# Altium schematic symbol library 2.5 - STM32 F2系列单片机.SchLib: 49 symbols (part 2 of 3)
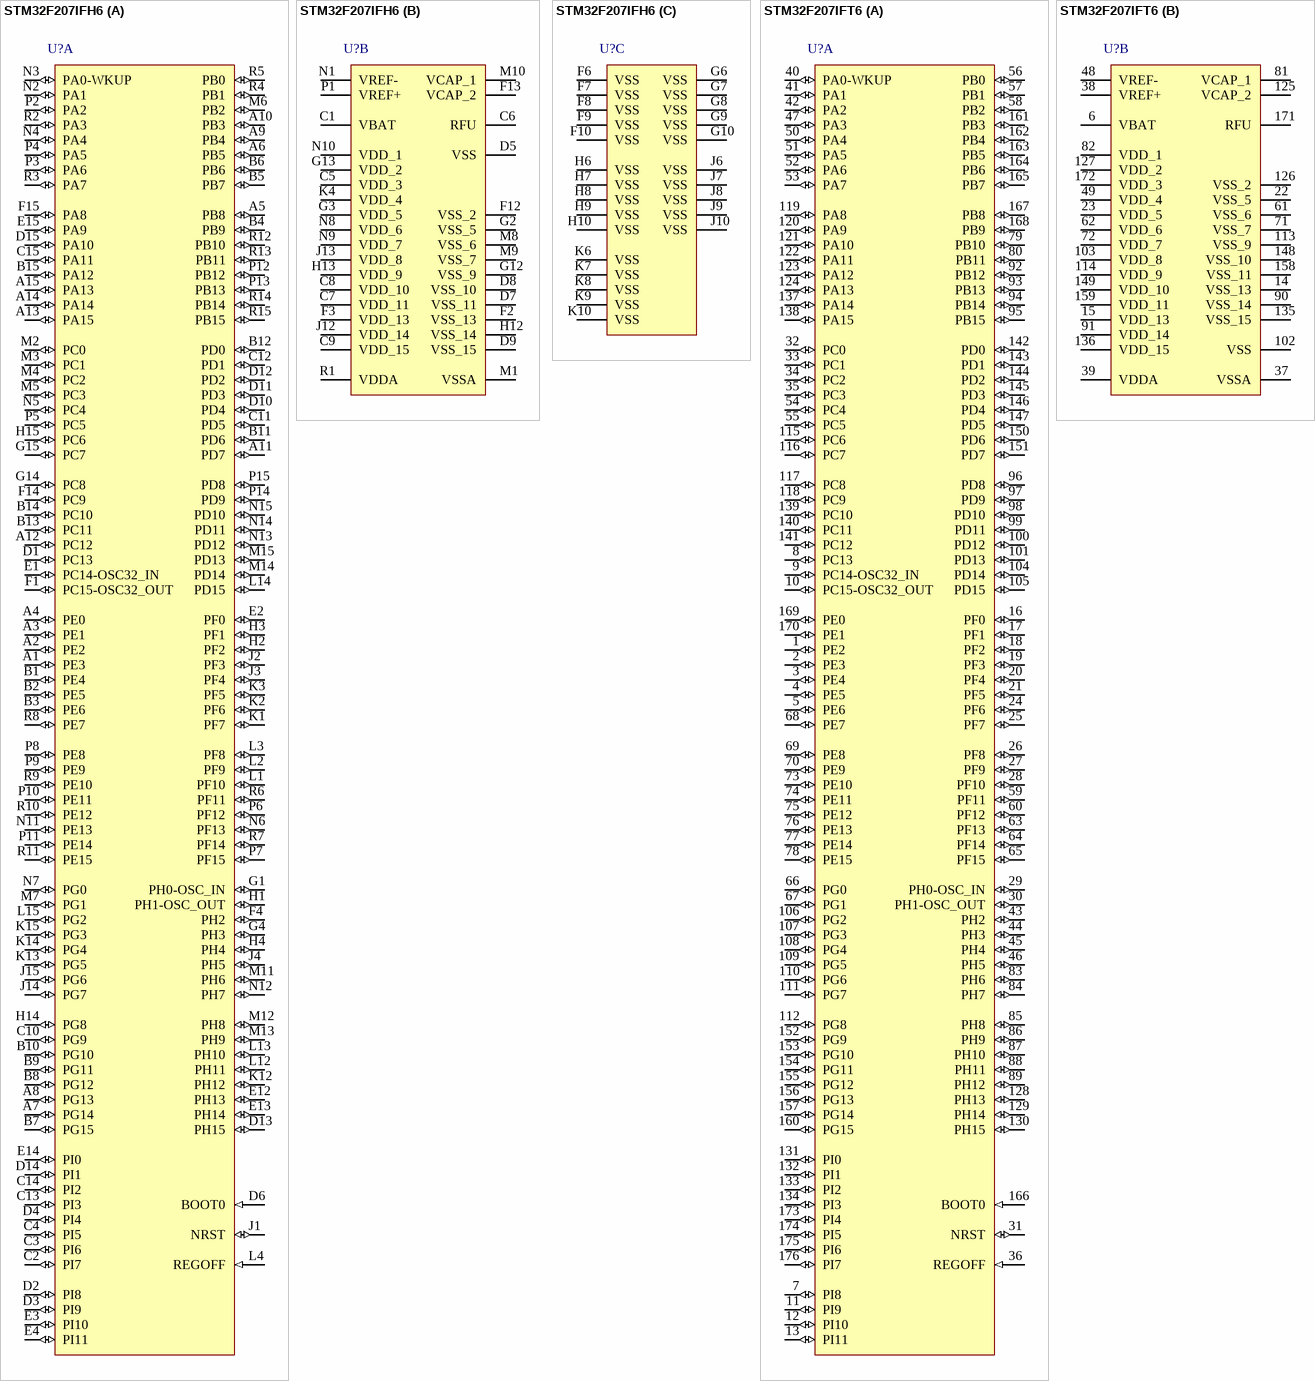
[diagram p15: symbols STM32F207IFH6 to STM32F207IFT6]

## STM32F207IFT6
designator U?
STM32 ARM-based 32-bit MCU Connectivity Line & Ethernet with 768 kB Flash, 128 kB Internal RAM, -40 to +85癈 Temperature, 176-Pin LQFP, Tray; 0.2_封装规格: LQFP176; 0.1_封装说明: 176-Pin Low Profile Quad Flat Pack 0.5 mm Pitch; 1.库作者: 冰凌猫; 2.库版本: v2.0 (2021.03.30); 3.交流分享: Q群514746572,开源更新,欢迎一起交流学习PCB设计; 4.作者声明: 旨为整合最全库集,欢迎转载,禁止商用！-冰凌猫; 5.备注说明: 该库已二次整合过网上各热销库,基本最全,无需重复搜购安装
footprint LQFP176_N (Thin QFP, 176-Leads, Body 24x24mm, Pitch 0.5mm, IPC Medium Density)
footprint LQFP176_L (Thin QFP, 176-Leads, Body 24x24mm, Pitch 0.5mm, IPC High Density)
footprint LQFP176_M (Thin QFP, 176-Leads, Body 24x24mm, Pitch 0.5mm, IPC Low Density)
part A pins: 1 PE2 (io), 2 PE3 (io), 3 PE4 (io), 4 PE5 (io), 5 PE6 (io), 7 PI8 (io), 8 PC13 (io), 9 PC14-OSC32_IN (io), 10 PC15-OSC32_OUT (io), 11 PI9 (io), 12 PI10 (io), 13 PI11 (io), 16 PF0 (io), 17 PF1 (io), 18 PF2 (io), 19 PF3 (io), 20 PF4 (io), 21 PF5 (io), 24 PF6 (io), 25 PF7 (io), 26 PF8 (io), 27 PF9 (io), 28 PF10 (io), 29 PH0-OSC_IN (io), 30 PH1-OSC_OUT (io), 31 NRST (io), 32 PC0 (io), 33 PC1 (io), 34 PC2 (io), 35 PC3 (io), 36 REGOFF (in), 40 PA0-WKUP (io), 41 PA1 (io), 42 PA2 (io), 43 PH2 (io), 44 PH3 (io), 45 PH4 (io), 46 PH5 (io), 47 PA3 (io), 50 PA4 (io), 51 PA5 (io), 52 PA6 (io), 53 PA7 (io), 54 PC4 (io), 55 PC5 (io), 56 PB0 (io), 57 PB1 (io), 58 PB2 (io), 59 PF11 (io), 60 PF12 (io), 63 PF13 (io), 64 PF14 (io), 65 PF15 (io), 66 PG0 (io), 67 PG1 (io), 68 PE7 (io), 69 PE8 (io), 70 PE9 (io), 73 PE10 (io), 74 PE11 (io), 75 PE12 (io), 76 PE13 (io), 77 PE14 (io), 78 PE15 (io), 79 PB10 (io), 80 PB11 (io), 83 PH6 (io), 84 PH7 (io), 85 PH8 (io), 86 PH9 (io), 87 PH10 (io), 88 PH11 (io), 89 PH12 (io), 92 PB12 (io), 93 PB13 (io), 94 PB14 (io), 95 PB15 (io), 96 PD8 (io), 97 PD9 (io), 98 PD10 (io), 99 PD11 (io), 100 PD12 (io), 101 PD13 (io), 104 PD14 (io), 105 PD15 (io), 106 PG2 (io), 107 PG3 (io), 108 PG4 (io), 109 PG5 (io), 110 PG6 (io), 111 PG7 (io), 112 PG8 (io), 115 PC6 (io), 116 PC7 (io), 117 PC8 (io), 118 PC9 (io), 119 PA8 (io), 120 PA9 (io), 121 PA10 (io), 122 PA11 (io), 123 PA12 (io), 124 PA13 (io), 128 PH13 (io), 129 PH14 (io), 130 PH15 (io), 131 PI0 (io), 132 PI1 (io), 133 PI2 (io), 134 PI3 (io), 137 PA14 (io), 138 PA15 (io), 139 PC10 (io), 140 PC11 (io), 141 PC12 (io), 142 PD0 (io), 143 PD1 (io), 144 PD2 (io), 145 PD3 (io), 146 PD4 (io), 147 PD5 (io), 150 PD6 (io), 151 PD7 (io), 152 PG9 (io), 153 PG10 (io), 154 PG11 (io), 155 PG12 (io), 156 PG13 (io), 157 PG14 (io), 160 PG15 (io), 161 PB3 (io), 162 PB4 (io), 163 PB5 (io), 164 PB6 (io), 165 PB7 (io), 166 BOOT0 (in), 167 PB8 (io), 168 PB9 (io), 169 PE0 (io), 170 PE1 (io), 173 PI4 (io), 174 PI5 (io), 175 PI6 (io), 176 PI7 (io)
part B pins: 6 VBAT (power), 14 VSS_13 (power), 15 VDD_13 (power), 22 VSS_5 (power), 23 VDD_5 (power), 37 VSSA (power), 38 VREF+ (power), 39 VDDA (power), 48 VREF- (power), 49 VDD_4 (power), 61 VSS_6 (power), 62 VDD_6 (power), 71 VSS_7 (power), 72 VDD_7 (power), 81 VCAP_1, 82 VDD_1 (power), 90 VSS_14 (power), 91 VDD_14 (power), 102 VSS (power), 103 VDD_8 (power), 113 VSS_9 (power), 114 VDD_9 (power), 125 VCAP_2, 126 VSS_2 (power), 127 VDD_2 (power), 135 VSS_15 (power), 136 VDD_15 (power), 148 VSS_10 (power), 149 VDD_10 (power), 158 VSS_11 (power), 159 VDD_11 (power), 171 RFU, 172 VDD_3 (power)

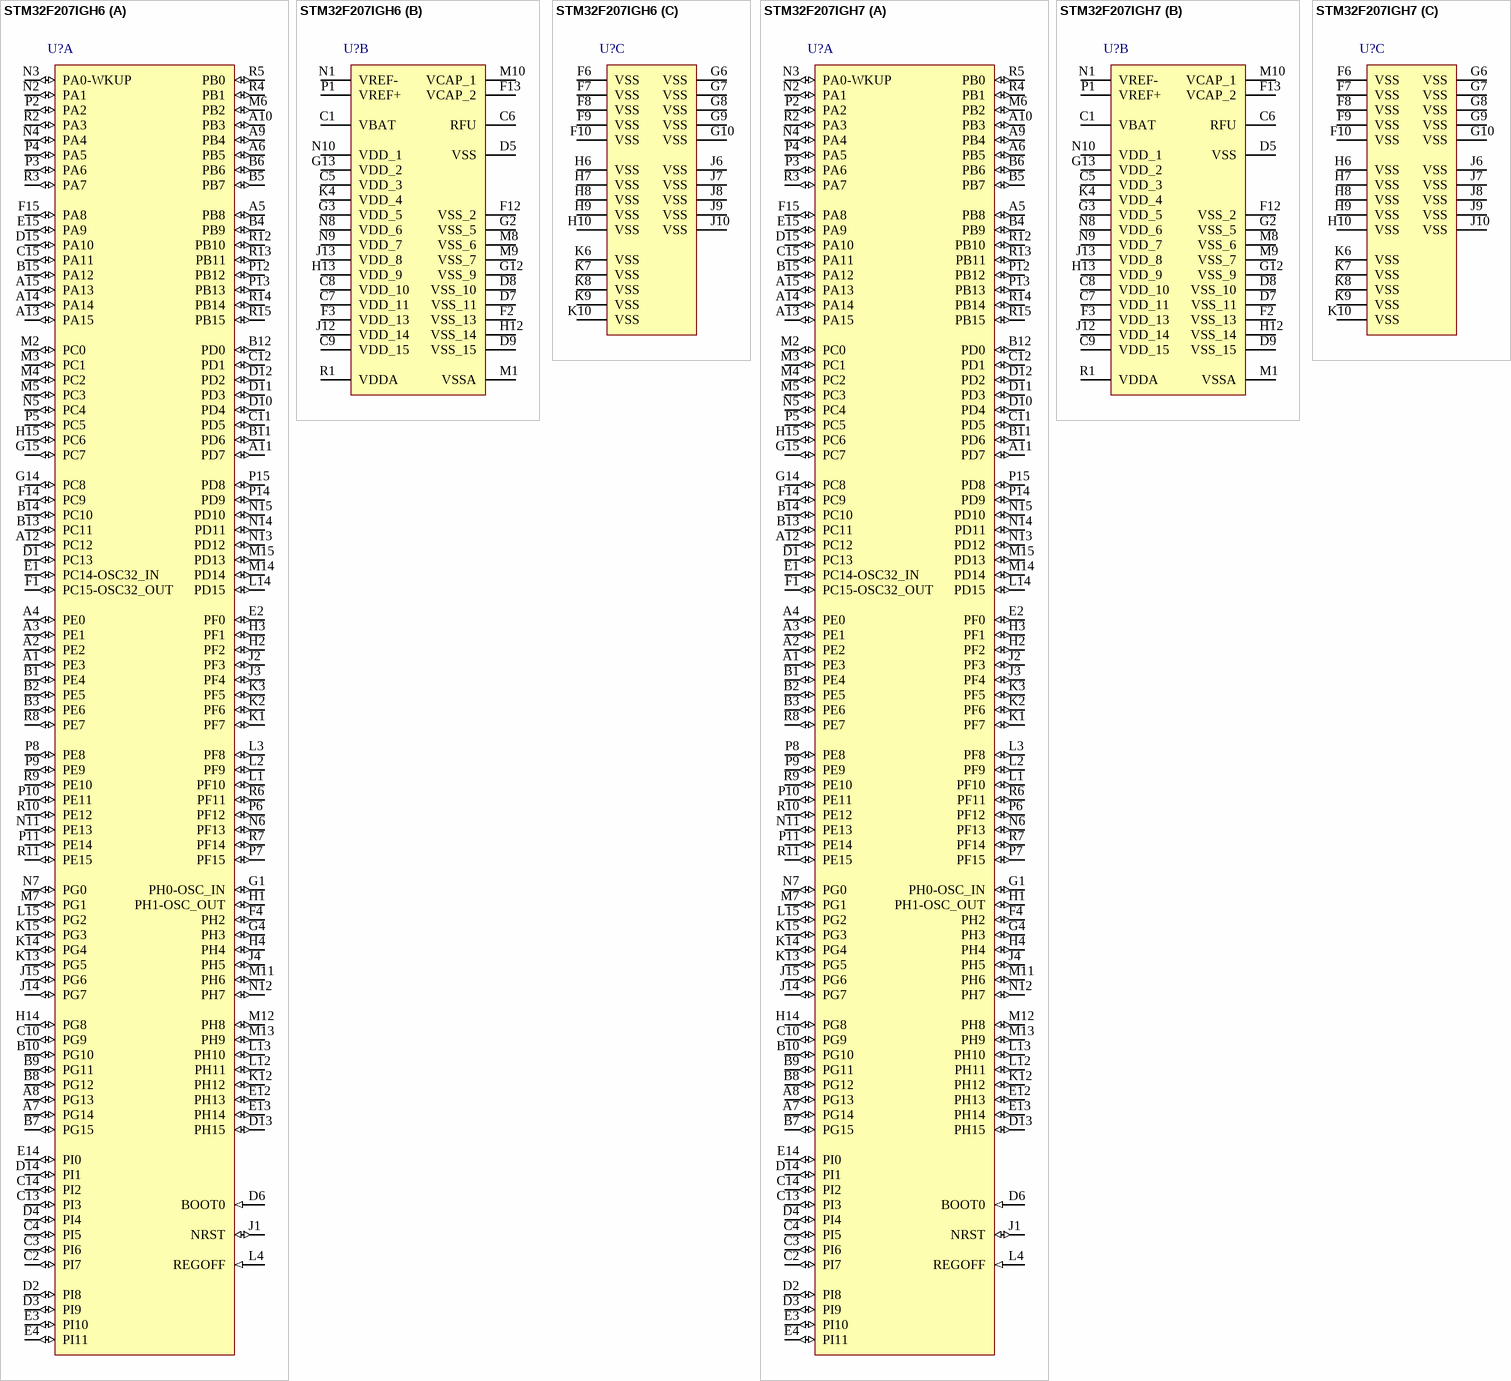
[diagram p6: symbols STM32F207IGH6 to STM32F207IGH7]

## STM32F207IGH6
designator U?
STM32 ARM-based 32-bit MCU Connectivity Line & Ethernet with 1024 kB Flash, 128 kB Internal RAM, -40 to +85癈 Temperature, 176-Pin BGA, Tray; 0.2_封装规格: UFBGA176+25; 0.1_封装说明: 176+25 Ultra Thin Fine Pitch Ball Grid Array, 10 x 10 x 0.6 mm Body, 0.65 mm Pitch; 1.库作者: 冰凌猫; 2.库版本: v2.0 (2021.03.30); 3.交流分享: Q群514746572,开源更新,欢迎一起交流学习PCB设计; 4.作者声明: 旨为整合最全库集,欢迎转载,禁止商用！-冰凌猫; 5.备注说明: 该库已二次整合过网上各热销库,基本最全,无需重复搜购安装
footprint UFBGA176+25 (BGA, 201-Leads, Body 10x10mm, Pitch 0.65mm)
part A pins: A1 PE3 (io), A2 PE2 (io), A3 PE1 (io), A4 PE0 (io), A5 PB8 (io), A6 PB5 (io), A7 PG14 (io), A8 PG13 (io), A9 PB4 (io), A10 PB3 (io), A11 PD7 (io), A12 PC12 (io), A13 PA15 (io), A14 PA14 (io), A15 PA13 (io), B1 PE4 (io), B2 PE5 (io), B3 PE6 (io), B4 PB9 (io), B5 PB7 (io), B6 PB6 (io), B7 PG15 (io), B8 PG12 (io), B9 PG11 (io), B10 PG10 (io), B11 PD6 (io), B12 PD0 (io), B13 PC11 (io), B14 PC10 (io), B15 PA12 (io), C2 PI7 (io), C3 PI6 (io), C4 PI5 (io), C10 PG9 (io), C11 PD5 (io), C12 PD1 (io), C13 PI3 (io), C14 PI2 (io), C15 PA11 (io), D1 PC13 (io), D2 PI8 (io), D3 PI9 (io), D4 PI4 (io), D6 BOOT0 (in), D10 PD4 (io), D11 PD3 (io), D12 PD2 (io), D13 PH15 (io), D14 PI1 (io), D15 PA10 (io), E1 PC14-OSC32_IN (io), E2 PF0 (io), E3 PI10 (io), E4 PI11 (io), E12 PH13 (io), E13 PH14 (io), E14 PI0 (io), E15 PA9 (io), F1 PC15-OSC32_OUT (io), F4 PH2 (io), F14 PC9 (io), F15 PA8 (io), G1 PH0-OSC_IN (io), G4 PH3 (io), G14 PC8 (io), G15 PC7 (io), H1 PH1-OSC_OUT (io), H2 PF2 (io), H3 PF1 (io), H4 PH4 (io), H14 PG8 (io), H15 PC6 (io), J1 NRST (io), J2 PF3 (io), J3 PF4 (io), J4 PH5 (io), J14 PG7 (io), J15 PG6 (io), K1 PF7 (io), K2 PF6 (io), K3 PF5 (io), K12 PH12 (io), K13 PG5 (io), K14 PG4 (io), K15 PG3 (io), L1 PF10 (io), L2 PF9 (io), L3 PF8 (io), L4 REGOFF (in), L12 PH11 (io), L13 PH10 (io), L14 PD15 (io), L15 PG2 (io), M2 PC0 (io), M3 PC1 (io), M4 PC2 (io), M5 PC3 (io), M6 PB2 (io), M7 PG1 (io), M11 PH6 (io), M12 PH8 (io), M13 PH9 (io), M14 PD14 (io), M15 PD13 (io), N2 PA1 (io), N3 PA0-WKUP (io), N4 PA4 (io), N5 PC4 (io), N6 PF13 (io), N7 PG0 (io), N11 PE13 (io), N12 PH7 (io), N13 PD12 (io), N14 PD11 (io), N15 PD10 (io), P2 PA2 (io), P3 PA6 (io), P4 PA5 (io), P5 PC5 (io), P6 PF12 (io), P7 PF15 (io), P8 PE8 (io), P9 PE9 (io), P10 PE11 (io), P11 PE14 (io), P12 PB12 (io), P13 PB13 (io), P14 PD9 (io), P15 PD8 (io), R2 PA3 (io), R3 PA7 (io), R4 PB1 (io), R5 PB0 (io), R6 PF11 (io), R7 PF14 (io), R8 PE7 (io), R9 PE10 (io), R10 PE12 (io), R11 PE15 (io), R12 PB10 (io), R13 PB11 (io), R14 PB14 (io), R15 PB15 (io)
part B pins: C1 VBAT (power), C5 VDD_3 (power), C6 RFU, C7 VDD_11 (power), C8 VDD_10 (power), C9 VDD_15 (power), D5 VSS (power), D7 VSS_11 (power), D8 VSS_10 (power), D9 VSS_15 (power), F2 VSS_13 (power), F3 VDD_13 (power), F12 VSS_2 (power), F13 VCAP_2, G2 VSS_5 (power), G3 VDD_5 (power), G12 VSS_9 (power), G13 VDD_2 (power), H12 VSS_14 (power), H13 VDD_9 (power), J12 VDD_14 (power), J13 VDD_8 (power), K4 VDD_4 (power), M1 VSSA (power), M8 VSS_6 (power), M9 VSS_7 (power), M10 VCAP_1, N1 VREF- (power), N8 VDD_6 (power), N9 VDD_7 (power), N10 VDD_1 (power), P1 VREF+ (power), R1 VDDA (power)
part C pins: F6 VSS (power), F7 VSS (power), F8 VSS (power), F9 VSS (power), F10 VSS (power), G6 VSS (power), G7 VSS (power), G8 VSS (power), G9 VSS (power), G10 VSS (power), H6 VSS (power), H7 VSS (power), H8 VSS (power), H9 VSS (power), H10 VSS (power), J6 VSS (power), J7 VSS (power), J8 VSS (power), J9 VSS (power), J10 VSS (power), K6 VSS (power), K7 VSS (power), K8 VSS (power), K9 VSS (power), K10 VSS (power)

## STM32F207IGH7
designator U?
STM32 ARM-based 32-bit MCU Connectivity Line & Ethernet with 1024 kB Flash, 128 kB Internal RAM, -40 to +105癈 Temperature, 176-Pin BGA, Tray; 0.2_封装规格: UFBGA176+25; 0.1_封装说明: 176+25 Ultra Thin Fine Pitch Ball Grid Array, 10 x 10 x 0.6 mm Body, 0.65 mm Pitch; 1.库作者: 冰凌猫; 2.库版本: v2.0 (2021.03.30); 3.交流分享: Q群514746572,开源更新,欢迎一起交流学习PCB设计; 4.作者声明: 旨为整合最全库集,欢迎转载,禁止商用！-冰凌猫; 5.备注说明: 该库已二次整合过网上各热销库,基本最全,无需重复搜购安装
footprint UFBGA176+25 (BGA, 201-Leads, Body 10x10mm, Pitch 0.65mm)
part A pins: A1 PE3 (io), A2 PE2 (io), A3 PE1 (io), A4 PE0 (io), A5 PB8 (io), A6 PB5 (io), A7 PG14 (io), A8 PG13 (io), A9 PB4 (io), A10 PB3 (io), A11 PD7 (io), A12 PC12 (io), A13 PA15 (io), A14 PA14 (io), A15 PA13 (io), B1 PE4 (io), B2 PE5 (io), B3 PE6 (io), B4 PB9 (io), B5 PB7 (io), B6 PB6 (io), B7 PG15 (io), B8 PG12 (io), B9 PG11 (io), B10 PG10 (io), B11 PD6 (io), B12 PD0 (io), B13 PC11 (io), B14 PC10 (io), B15 PA12 (io), C2 PI7 (io), C3 PI6 (io), C4 PI5 (io), C10 PG9 (io), C11 PD5 (io), C12 PD1 (io), C13 PI3 (io), C14 PI2 (io), C15 PA11 (io), D1 PC13 (io), D2 PI8 (io), D3 PI9 (io), D4 PI4 (io), D6 BOOT0 (in), D10 PD4 (io), D11 PD3 (io), D12 PD2 (io), D13 PH15 (io), D14 PI1 (io), D15 PA10 (io), E1 PC14-OSC32_IN (io), E2 PF0 (io), E3 PI10 (io), E4 PI11 (io), E12 PH13 (io), E13 PH14 (io), E14 PI0 (io), E15 PA9 (io), F1 PC15-OSC32_OUT (io), F4 PH2 (io), F14 PC9 (io), F15 PA8 (io), G1 PH0-OSC_IN (io), G4 PH3 (io), G14 PC8 (io), G15 PC7 (io), H1 PH1-OSC_OUT (io), H2 PF2 (io), H3 PF1 (io), H4 PH4 (io), H14 PG8 (io), H15 PC6 (io), J1 NRST (io), J2 PF3 (io), J3 PF4 (io), J4 PH5 (io), J14 PG7 (io), J15 PG6 (io), K1 PF7 (io), K2 PF6 (io), K3 PF5 (io), K12 PH12 (io), K13 PG5 (io), K14 PG4 (io), K15 PG3 (io), L1 PF10 (io), L2 PF9 (io), L3 PF8 (io), L4 REGOFF (in), L12 PH11 (io), L13 PH10 (io), L14 PD15 (io), L15 PG2 (io), M2 PC0 (io), M3 PC1 (io), M4 PC2 (io), M5 PC3 (io), M6 PB2 (io), M7 PG1 (io), M11 PH6 (io), M12 PH8 (io), M13 PH9 (io), M14 PD14 (io), M15 PD13 (io), N2 PA1 (io), N3 PA0-WKUP (io), N4 PA4 (io), N5 PC4 (io), N6 PF13 (io), N7 PG0 (io), N11 PE13 (io), N12 PH7 (io), N13 PD12 (io), N14 PD11 (io), N15 PD10 (io), P2 PA2 (io), P3 PA6 (io), P4 PA5 (io), P5 PC5 (io), P6 PF12 (io), P7 PF15 (io), P8 PE8 (io), P9 PE9 (io), P10 PE11 (io), P11 PE14 (io), P12 PB12 (io), P13 PB13 (io), P14 PD9 (io), P15 PD8 (io), R2 PA3 (io), R3 PA7 (io), R4 PB1 (io), R5 PB0 (io), R6 PF11 (io), R7 PF14 (io), R8 PE7 (io), R9 PE10 (io), R10 PE12 (io), R11 PE15 (io), R12 PB10 (io), R13 PB11 (io), R14 PB14 (io), R15 PB15 (io)
part B pins: C1 VBAT (power), C5 VDD_3 (power), C6 RFU, C7 VDD_11 (power), C8 VDD_10 (power), C9 VDD_15 (power), D5 VSS (power), D7 VSS_11 (power), D8 VSS_10 (power), D9 VSS_15 (power), F2 VSS_13 (power), F3 VDD_13 (power), F12 VSS_2 (power), F13 VCAP_2, G2 VSS_5 (power), G3 VDD_5 (power), G12 VSS_9 (power), G13 VDD_2 (power), H12 VSS_14 (power), H13 VDD_9 (power), J12 VDD_14 (power), J13 VDD_8 (power), K4 VDD_4 (power), M1 VSSA (power), M8 VSS_6 (power), M9 VSS_7 (power), M10 VCAP_1, N1 VREF- (power), N8 VDD_6 (power), N9 VDD_7 (power), N10 VDD_1 (power), P1 VREF+ (power), R1 VDDA (power)
part C pins: F6 VSS (power), F7 VSS (power), F8 VSS (power), F9 VSS (power), F10 VSS (power), G6 VSS (power), G7 VSS (power), G8 VSS (power), G9 VSS (power), G10 VSS (power), H6 VSS (power), H7 VSS (power), H8 VSS (power), H9 VSS (power), H10 VSS (power), J6 VSS (power), J7 VSS (power), J8 VSS (power), J9 VSS (power), J10 VSS (power), K6 VSS (power), K7 VSS (power), K8 VSS (power), K9 VSS (power), K10 VSS (power)

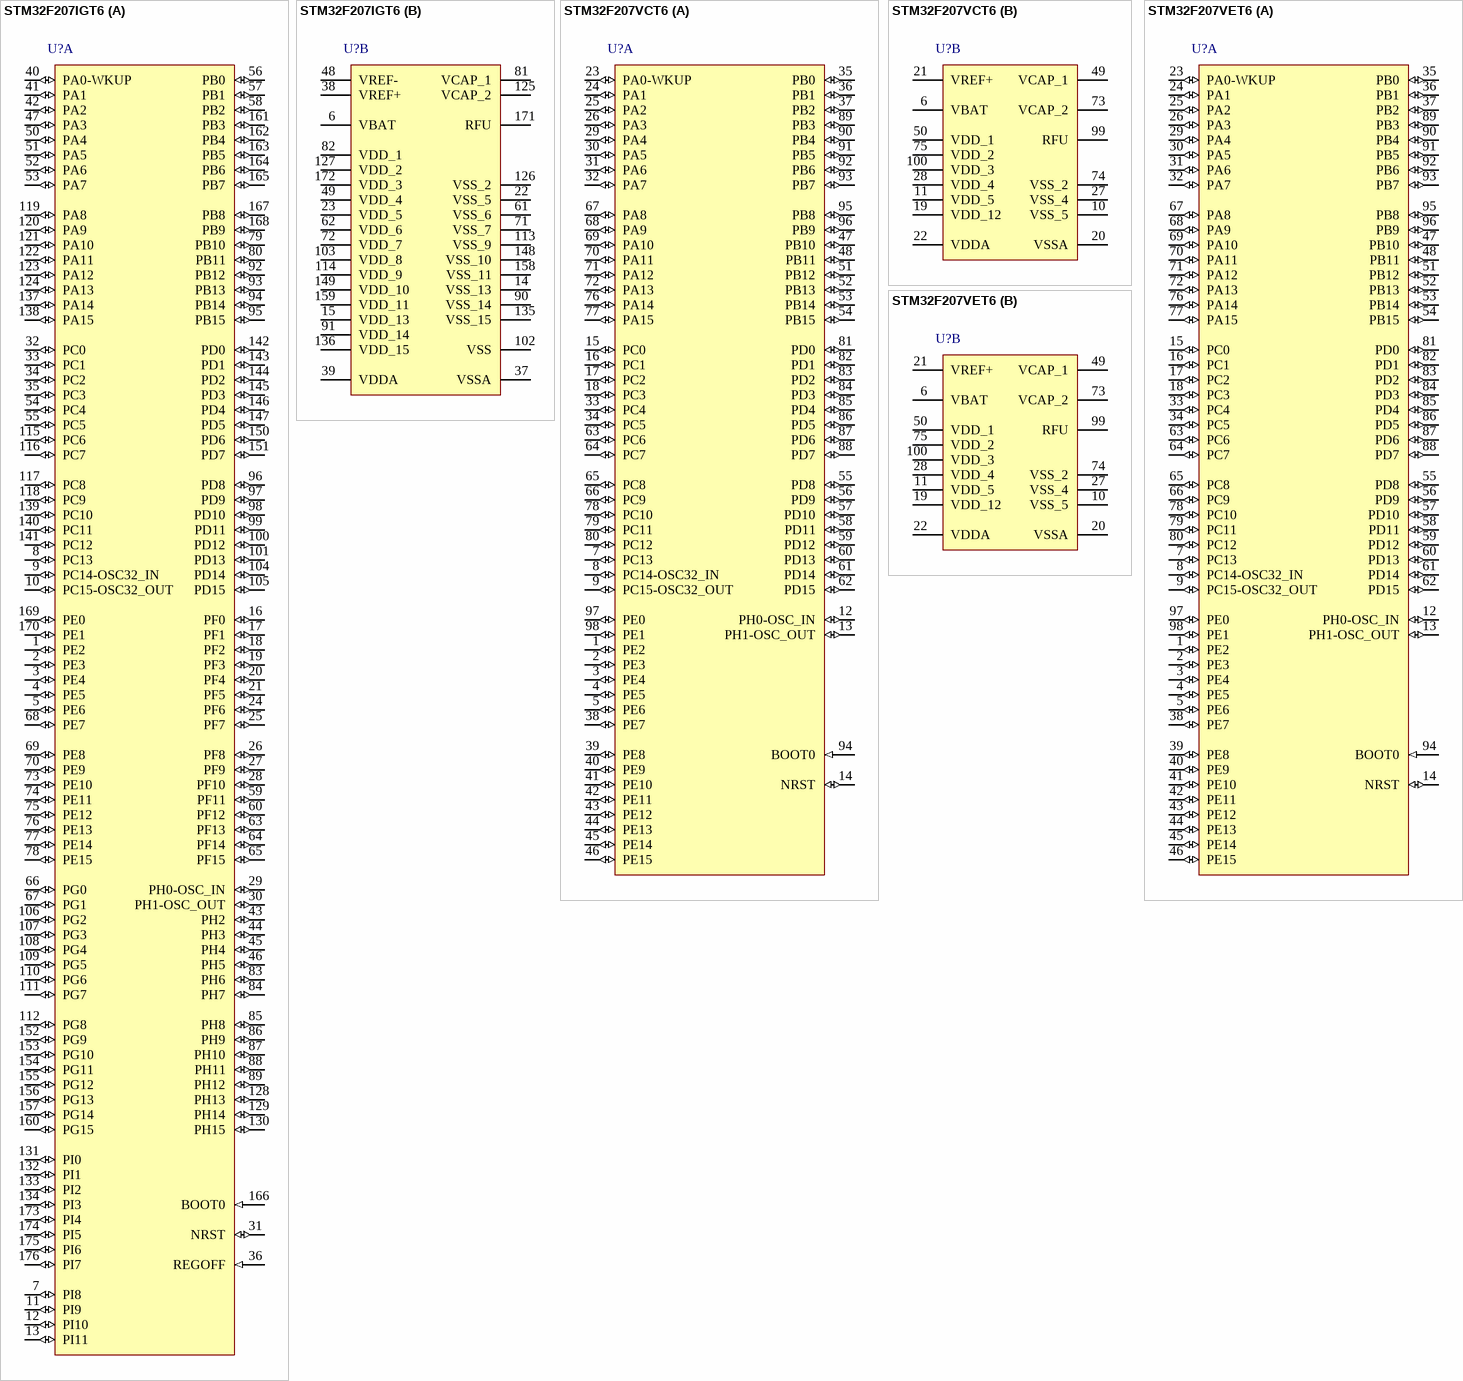
[diagram p7: symbols STM32F207IGT6 to STM32F207VET6]

## STM32F207IGT6
designator U?
STM32 ARM-based 32-bit MCU Connectivity Line & Ethernet with 1024 kB Flash, 128 kB Internal RAM, -40 to +85癈 Temperature, 176-Pin LQFP, Tray; 0.2_封装规格: LQFP176; 0.1_封装说明: 176-Pin Low Profile Quad Flat Pack 0.5 mm Pitch; 1.库作者: 冰凌猫; 2.库版本: v2.0 (2021.03.30); 3.交流分享: Q群514746572,开源更新,欢迎一起交流学习PCB设计; 4.作者声明: 旨为整合最全库集,欢迎转载,禁止商用！-冰凌猫; 5.备注说明: 该库已二次整合过网上各热销库,基本最全,无需重复搜购安装
footprint LQFP176_N (Thin QFP, 176-Leads, Body 24x24mm, Pitch 0.5mm, IPC Medium Density)
footprint LQFP176_L (Thin QFP, 176-Leads, Body 24x24mm, Pitch 0.5mm, IPC High Density)
footprint LQFP176_M (Thin QFP, 176-Leads, Body 24x24mm, Pitch 0.5mm, IPC Low Density)
part A pins: 1 PE2 (io), 2 PE3 (io), 3 PE4 (io), 4 PE5 (io), 5 PE6 (io), 7 PI8 (io), 8 PC13 (io), 9 PC14-OSC32_IN (io), 10 PC15-OSC32_OUT (io), 11 PI9 (io), 12 PI10 (io), 13 PI11 (io), 16 PF0 (io), 17 PF1 (io), 18 PF2 (io), 19 PF3 (io), 20 PF4 (io), 21 PF5 (io), 24 PF6 (io), 25 PF7 (io), 26 PF8 (io), 27 PF9 (io), 28 PF10 (io), 29 PH0-OSC_IN (io), 30 PH1-OSC_OUT (io), 31 NRST (io), 32 PC0 (io), 33 PC1 (io), 34 PC2 (io), 35 PC3 (io), 36 REGOFF (in), 40 PA0-WKUP (io), 41 PA1 (io), 42 PA2 (io), 43 PH2 (io), 44 PH3 (io), 45 PH4 (io), 46 PH5 (io), 47 PA3 (io), 50 PA4 (io), 51 PA5 (io), 52 PA6 (io), 53 PA7 (io), 54 PC4 (io), 55 PC5 (io), 56 PB0 (io), 57 PB1 (io), 58 PB2 (io), 59 PF11 (io), 60 PF12 (io), 63 PF13 (io), 64 PF14 (io), 65 PF15 (io), 66 PG0 (io), 67 PG1 (io), 68 PE7 (io), 69 PE8 (io), 70 PE9 (io), 73 PE10 (io), 74 PE11 (io), 75 PE12 (io), 76 PE13 (io), 77 PE14 (io), 78 PE15 (io), 79 PB10 (io), 80 PB11 (io), 83 PH6 (io), 84 PH7 (io), 85 PH8 (io), 86 PH9 (io), 87 PH10 (io), 88 PH11 (io), 89 PH12 (io), 92 PB12 (io), 93 PB13 (io), 94 PB14 (io), 95 PB15 (io), 96 PD8 (io), 97 PD9 (io), 98 PD10 (io), 99 PD11 (io), 100 PD12 (io), 101 PD13 (io), 104 PD14 (io), 105 PD15 (io), 106 PG2 (io), 107 PG3 (io), 108 PG4 (io), 109 PG5 (io), 110 PG6 (io), 111 PG7 (io), 112 PG8 (io), 115 PC6 (io), 116 PC7 (io), 117 PC8 (io), 118 PC9 (io), 119 PA8 (io), 120 PA9 (io), 121 PA10 (io), 122 PA11 (io), 123 PA12 (io), 124 PA13 (io), 128 PH13 (io), 129 PH14 (io), 130 PH15 (io), 131 PI0 (io), 132 PI1 (io), 133 PI2 (io), 134 PI3 (io), 137 PA14 (io), 138 PA15 (io), 139 PC10 (io), 140 PC11 (io), 141 PC12 (io), 142 PD0 (io), 143 PD1 (io), 144 PD2 (io), 145 PD3 (io), 146 PD4 (io), 147 PD5 (io), 150 PD6 (io), 151 PD7 (io), 152 PG9 (io), 153 PG10 (io), 154 PG11 (io), 155 PG12 (io), 156 PG13 (io), 157 PG14 (io), 160 PG15 (io), 161 PB3 (io), 162 PB4 (io), 163 PB5 (io), 164 PB6 (io), 165 PB7 (io), 166 BOOT0 (in), 167 PB8 (io), 168 PB9 (io), 169 PE0 (io), 170 PE1 (io), 173 PI4 (io), 174 PI5 (io), 175 PI6 (io), 176 PI7 (io)
part B pins: 6 VBAT (power), 14 VSS_13 (power), 15 VDD_13 (power), 22 VSS_5 (power), 23 VDD_5 (power), 37 VSSA (power), 38 VREF+ (power), 39 VDDA (power), 48 VREF- (power), 49 VDD_4 (power), 61 VSS_6 (power), 62 VDD_6 (power), 71 VSS_7 (power), 72 VDD_7 (power), 81 VCAP_1, 82 VDD_1 (power), 90 VSS_14 (power), 91 VDD_14 (power), 102 VSS (power), 103 VDD_8 (power), 113 VSS_9 (power), 114 VDD_9 (power), 125 VCAP_2, 126 VSS_2 (power), 127 VDD_2 (power), 135 VSS_15 (power), 136 VDD_15 (power), 148 VSS_10 (power), 149 VDD_10 (power), 158 VSS_11 (power), 159 VDD_11 (power), 171 RFU, 172 VDD_3 (power)

## STM32F207VCT6
designator U?
STM32 ARM-based 32-bit MCU Connectivity Line & Ethernet with 256 kB Flash, 128 kB Internal RAM, -40 to +85癈 Temperature, 100-Pin LQFP, Tray; 0.2_封装规格: LQFP100; 0.1_封装说明: 100-Pin Low-Profile Quad Flat Pack, 14 x 14 mm Body, 0.5 mm Pitch (LQFP100); 1.库作者: 冰凌猫; 2.库版本: v2.0 (2021.03.30); 3.交流分享: Q群514746572,开源更新,欢迎一起交流学习PCB设计; 4.作者声明: 旨为整合最全库集,欢迎转载,禁止商用！-冰凌猫; 5.备注说明: 该库已二次整合过网上各热销库,基本最全,无需重复搜购安装
footprint LQFP100_N (Thin QFP, 100-Leads, Body 14x14mm, Pitch 0.5mm, IPC Medium Density)
footprint LQFP100_L (Thin QFP, 100-Leads, Body 14x14mm, Pitch 0.5mm, IPC High Density)
footprint LQFP100_M (Thin QFP, 100-Leads, Body 14x14mm, Pitch 0.5mm, IPC Low Density)
part A pins: 1 PE2 (io), 2 PE3 (io), 3 PE4 (io), 4 PE5 (io), 5 PE6 (io), 7 PC13 (io), 8 PC14-OSC32_IN (io), 9 PC15-OSC32_OUT (io), 12 PH0-OSC_IN (io), 13 PH1-OSC_OUT (io), 14 NRST (io), 15 PC0 (io), 16 PC1 (io), 17 PC2 (io), 18 PC3 (io), 23 PA0-WKUP (io), 24 PA1 (io), 25 PA2 (io), 26 PA3 (io), 29 PA4 (io), 30 PA5 (io), 31 PA6 (io), 32 PA7 (io), 33 PC4 (io), 34 PC5 (io), 35 PB0 (io), 36 PB1 (io), 37 PB2 (io), 38 PE7 (io), 39 PE8 (io), 40 PE9 (io), 41 PE10 (io), 42 PE11 (io), 43 PE12 (io), 44 PE13 (io), 45 PE14 (io), 46 PE15 (io), 47 PB10 (io), 48 PB11 (io), 51 PB12 (io), 52 PB13 (io), 53 PB14 (io), 54 PB15 (io), 55 PD8 (io), 56 PD9 (io), 57 PD10 (io), 58 PD11 (io), 59 PD12 (io), 60 PD13 (io), 61 PD14 (io), 62 PD15 (io), 63 PC6 (io), 64 PC7 (io), 65 PC8 (io), 66 PC9 (io), 67 PA8 (io), 68 PA9 (io), 69 PA10 (io), 70 PA11 (io), 71 PA12 (io), 72 PA13 (io), 76 PA14 (io), 77 PA15 (io), 78 PC10 (io), 79 PC11 (io), 80 PC12 (io), 81 PD0 (io), 82 PD1 (io), 83 PD2 (io), 84 PD3 (io), 85 PD4 (io), 86 PD5 (io), 87 PD6 (io), 88 PD7 (io), 89 PB3 (io), 90 PB4 (io), 91 PB5 (io), 92 PB6 (io), 93 PB7 (io), 94 BOOT0 (in), 95 PB8 (io), 96 PB9 (io), 97 PE0 (io), 98 PE1 (io)
part B pins: 6 VBAT (power), 10 VSS_5 (power), 11 VDD_5 (power), 19 VDD_12 (power), 20 VSSA (power), 21 VREF+ (power), 22 VDDA (power), 27 VSS_4 (power), 28 VDD_4 (power), 49 VCAP_1 (power), 50 VDD_1 (power), 73 VCAP_2 (power), 74 VSS_2 (power), 75 VDD_2 (power), 99 RFU, 100 VDD_3 (power)

## STM32F207VET6
designator U?
STM32 ARM-based 32-bit MCU Connectivity Line & Ethernet with 512 kB Flash, 128 kB Internal RAM, -40 to +85癈 Temperature, 100-Pin LQFP, Tray; 0.2_封装规格: LQFP100; 0.1_封装说明: 100-Pin Low-Profile Quad Flat Pack, 14 x 14 mm Body, 0.5 mm Pitch (LQFP100); 1.库作者: 冰凌猫; 2.库版本: v2.0 (2021.03.30); 3.交流分享: Q群514746572,开源更新,欢迎一起交流学习PCB设计; 4.作者声明: 旨为整合最全库集,欢迎转载,禁止商用！-冰凌猫; 5.备注说明: 该库已二次整合过网上各热销库,基本最全,无需重复搜购安装
footprint LQFP100_N (Thin QFP, 100-Leads, Body 14x14mm, Pitch 0.5mm, IPC Medium Density)
footprint LQFP100_L (Thin QFP, 100-Leads, Body 14x14mm, Pitch 0.5mm, IPC High Density)
footprint LQFP100_M (Thin QFP, 100-Leads, Body 14x14mm, Pitch 0.5mm, IPC Low Density)
part A pins: 1 PE2 (io), 2 PE3 (io), 3 PE4 (io), 4 PE5 (io), 5 PE6 (io), 7 PC13 (io), 8 PC14-OSC32_IN (io), 9 PC15-OSC32_OUT (io), 12 PH0-OSC_IN (io), 13 PH1-OSC_OUT (io), 14 NRST (io), 15 PC0 (io), 16 PC1 (io), 17 PC2 (io), 18 PC3 (io), 23 PA0-WKUP (io), 24 PA1 (io), 25 PA2 (io), 26 PA3 (io), 29 PA4 (io), 30 PA5 (io), 31 PA6 (io), 32 PA7 (io), 33 PC4 (io), 34 PC5 (io), 35 PB0 (io), 36 PB1 (io), 37 PB2 (io), 38 PE7 (io), 39 PE8 (io), 40 PE9 (io), 41 PE10 (io), 42 PE11 (io), 43 PE12 (io), 44 PE13 (io), 45 PE14 (io), 46 PE15 (io), 47 PB10 (io), 48 PB11 (io), 51 PB12 (io), 52 PB13 (io), 53 PB14 (io), 54 PB15 (io), 55 PD8 (io), 56 PD9 (io), 57 PD10 (io), 58 PD11 (io), 59 PD12 (io), 60 PD13 (io), 61 PD14 (io), 62 PD15 (io), 63 PC6 (io), 64 PC7 (io), 65 PC8 (io), 66 PC9 (io), 67 PA8 (io), 68 PA9 (io), 69 PA10 (io), 70 PA11 (io), 71 PA12 (io), 72 PA13 (io), 76 PA14 (io), 77 PA15 (io), 78 PC10 (io), 79 PC11 (io), 80 PC12 (io), 81 PD0 (io), 82 PD1 (io), 83 PD2 (io), 84 PD3 (io), 85 PD4 (io), 86 PD5 (io), 87 PD6 (io), 88 PD7 (io), 89 PB3 (io), 90 PB4 (io), 91 PB5 (io), 92 PB6 (io), 93 PB7 (io), 94 BOOT0 (in), 95 PB8 (io), 96 PB9 (io), 97 PE0 (io), 98 PE1 (io)
part B pins: 6 VBAT (power), 10 VSS_5 (power), 11 VDD_5 (power), 19 VDD_12 (power), 20 VSSA (power), 21 VREF+ (power), 22 VDDA (power), 27 VSS_4 (power), 28 VDD_4 (power), 49 VCAP_1 (power), 50 VDD_1 (power), 73 VCAP_2 (power), 74 VSS_2 (power), 75 VDD_2 (power), 99 RFU, 100 VDD_3 (power)

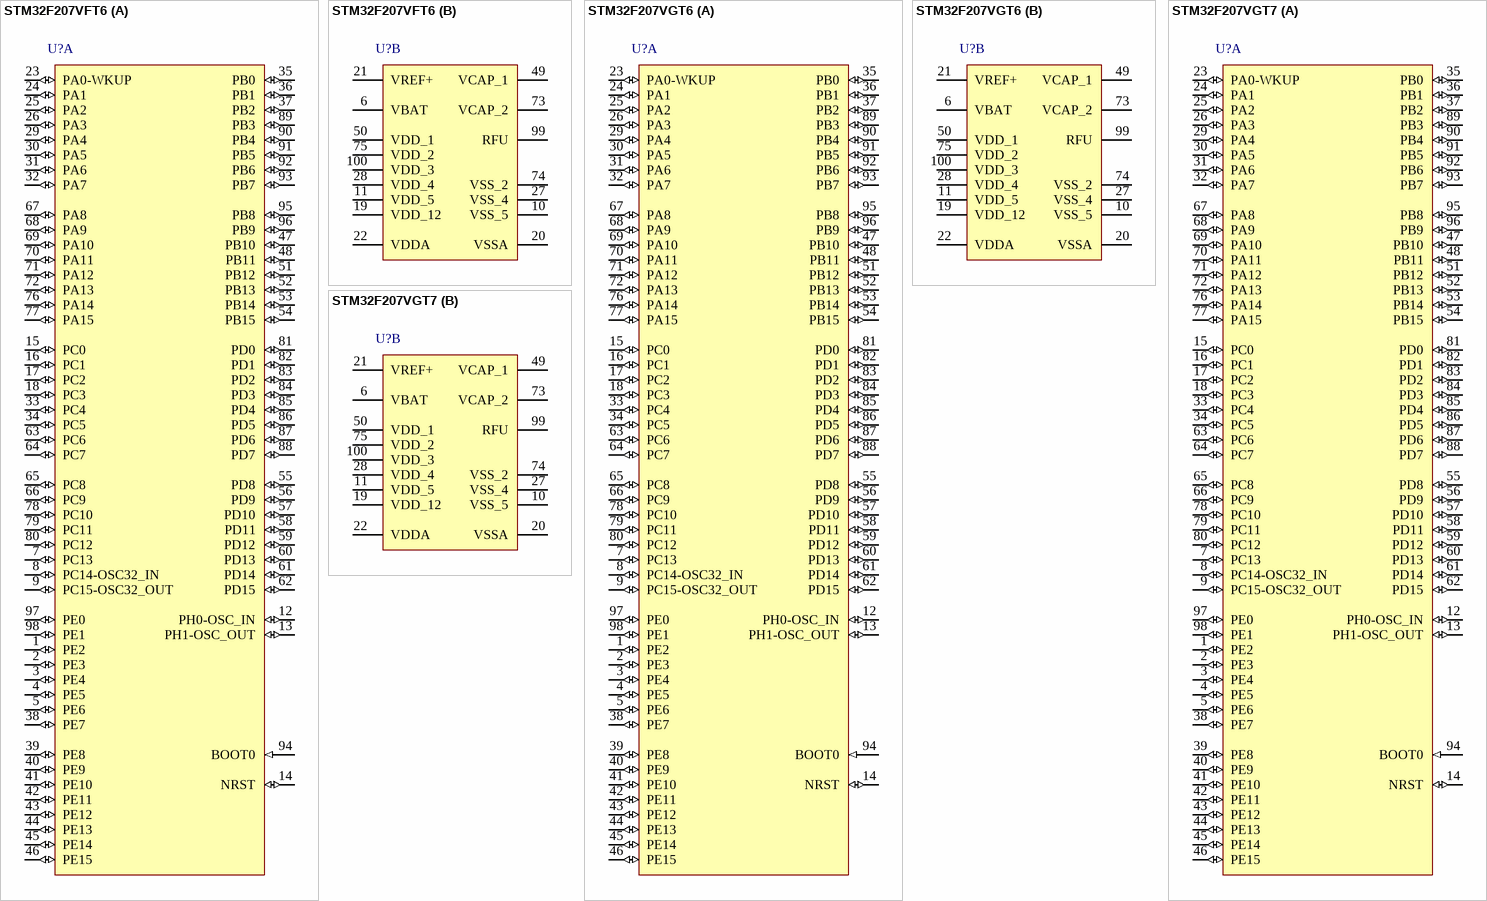
[diagram p8: symbols STM32F207VFT6 to STM32F207VGT7]

## STM32F207VFT6
designator U?
STM32 ARM-based 32-bit MCU Connectivity Line & Ethernet with 768 kB Flash, 128 kB Internal RAM, -40 to +85癈 Temperature, 100-Pin LQFP, Tray; 0.2_封装规格: LQFP100; 0.1_封装说明: 100-Pin Low-Profile Quad Flat Pack, 14 x 14 mm Body, 0.5 mm Pitch (LQFP100); 1.库作者: 冰凌猫; 2.库版本: v2.0 (2021.03.30); 3.交流分享: Q群514746572,开源更新,欢迎一起交流学习PCB设计; 4.作者声明: 旨为整合最全库集,欢迎转载,禁止商用！-冰凌猫; 5.备注说明: 该库已二次整合过网上各热销库,基本最全,无需重复搜购安装
footprint LQFP100_N (Thin QFP, 100-Leads, Body 14x14mm, Pitch 0.5mm, IPC Medium Density)
footprint LQFP100_L (Thin QFP, 100-Leads, Body 14x14mm, Pitch 0.5mm, IPC High Density)
footprint LQFP100_M (Thin QFP, 100-Leads, Body 14x14mm, Pitch 0.5mm, IPC Low Density)
part A pins: 1 PE2 (io), 2 PE3 (io), 3 PE4 (io), 4 PE5 (io), 5 PE6 (io), 7 PC13 (io), 8 PC14-OSC32_IN (io), 9 PC15-OSC32_OUT (io), 12 PH0-OSC_IN (io), 13 PH1-OSC_OUT (io), 14 NRST (io), 15 PC0 (io), 16 PC1 (io), 17 PC2 (io), 18 PC3 (io), 23 PA0-WKUP (io), 24 PA1 (io), 25 PA2 (io), 26 PA3 (io), 29 PA4 (io), 30 PA5 (io), 31 PA6 (io), 32 PA7 (io), 33 PC4 (io), 34 PC5 (io), 35 PB0 (io), 36 PB1 (io), 37 PB2 (io), 38 PE7 (io), 39 PE8 (io), 40 PE9 (io), 41 PE10 (io), 42 PE11 (io), 43 PE12 (io), 44 PE13 (io), 45 PE14 (io), 46 PE15 (io), 47 PB10 (io), 48 PB11 (io), 51 PB12 (io), 52 PB13 (io), 53 PB14 (io), 54 PB15 (io), 55 PD8 (io), 56 PD9 (io), 57 PD10 (io), 58 PD11 (io), 59 PD12 (io), 60 PD13 (io), 61 PD14 (io), 62 PD15 (io), 63 PC6 (io), 64 PC7 (io), 65 PC8 (io), 66 PC9 (io), 67 PA8 (io), 68 PA9 (io), 69 PA10 (io), 70 PA11 (io), 71 PA12 (io), 72 PA13 (io), 76 PA14 (io), 77 PA15 (io), 78 PC10 (io), 79 PC11 (io), 80 PC12 (io), 81 PD0 (io), 82 PD1 (io), 83 PD2 (io), 84 PD3 (io), 85 PD4 (io), 86 PD5 (io), 87 PD6 (io), 88 PD7 (io), 89 PB3 (io), 90 PB4 (io), 91 PB5 (io), 92 PB6 (io), 93 PB7 (io), 94 BOOT0 (in), 95 PB8 (io), 96 PB9 (io), 97 PE0 (io), 98 PE1 (io)
part B pins: 6 VBAT (power), 10 VSS_5 (power), 11 VDD_5 (power), 19 VDD_12 (power), 20 VSSA (power), 21 VREF+ (power), 22 VDDA (power), 27 VSS_4 (power), 28 VDD_4 (power), 49 VCAP_1 (power), 50 VDD_1 (power), 73 VCAP_2 (power), 74 VSS_2 (power), 75 VDD_2 (power), 99 RFU, 100 VDD_3 (power)

## STM32F207VGT6
designator U?
STM32 ARM-based 32-bit MCU Connectivity Line & Ethernet with 1024 kB Flash, 128 kB Internal RAM, -40 to +85癈 Temperature, 100-Pin LQFP, Tray; 0.2_封装规格: LQFP100; 0.1_封装说明: 100-Pin Low-Profile Quad Flat Pack, 14 x 14 mm Body, 0.5 mm Pitch (LQFP100); 1.库作者: 冰凌猫; 2.库版本: v2.0 (2021.03.30); 3.交流分享: Q群514746572,开源更新,欢迎一起交流学习PCB设计; 4.作者声明: 旨为整合最全库集,欢迎转载,禁止商用！-冰凌猫; 5.备注说明: 该库已二次整合过网上各热销库,基本最全,无需重复搜购安装
footprint LQFP100_N (Thin QFP, 100-Leads, Body 14x14mm, Pitch 0.5mm, IPC Medium Density)
footprint LQFP100_L (Thin QFP, 100-Leads, Body 14x14mm, Pitch 0.5mm, IPC High Density)
footprint LQFP100_M (Thin QFP, 100-Leads, Body 14x14mm, Pitch 0.5mm, IPC Low Density)
part A pins: 1 PE2 (io), 2 PE3 (io), 3 PE4 (io), 4 PE5 (io), 5 PE6 (io), 7 PC13 (io), 8 PC14-OSC32_IN (io), 9 PC15-OSC32_OUT (io), 12 PH0-OSC_IN (io), 13 PH1-OSC_OUT (io), 14 NRST (io), 15 PC0 (io), 16 PC1 (io), 17 PC2 (io), 18 PC3 (io), 23 PA0-WKUP (io), 24 PA1 (io), 25 PA2 (io), 26 PA3 (io), 29 PA4 (io), 30 PA5 (io), 31 PA6 (io), 32 PA7 (io), 33 PC4 (io), 34 PC5 (io), 35 PB0 (io), 36 PB1 (io), 37 PB2 (io), 38 PE7 (io), 39 PE8 (io), 40 PE9 (io), 41 PE10 (io), 42 PE11 (io), 43 PE12 (io), 44 PE13 (io), 45 PE14 (io), 46 PE15 (io), 47 PB10 (io), 48 PB11 (io), 51 PB12 (io), 52 PB13 (io), 53 PB14 (io), 54 PB15 (io), 55 PD8 (io), 56 PD9 (io), 57 PD10 (io), 58 PD11 (io), 59 PD12 (io), 60 PD13 (io), 61 PD14 (io), 62 PD15 (io), 63 PC6 (io), 64 PC7 (io), 65 PC8 (io), 66 PC9 (io), 67 PA8 (io), 68 PA9 (io), 69 PA10 (io), 70 PA11 (io), 71 PA12 (io), 72 PA13 (io), 76 PA14 (io), 77 PA15 (io), 78 PC10 (io), 79 PC11 (io), 80 PC12 (io), 81 PD0 (io), 82 PD1 (io), 83 PD2 (io), 84 PD3 (io), 85 PD4 (io), 86 PD5 (io), 87 PD6 (io), 88 PD7 (io), 89 PB3 (io), 90 PB4 (io), 91 PB5 (io), 92 PB6 (io), 93 PB7 (io), 94 BOOT0 (in), 95 PB8 (io), 96 PB9 (io), 97 PE0 (io), 98 PE1 (io)
part B pins: 6 VBAT (power), 10 VSS_5 (power), 11 VDD_5 (power), 19 VDD_12 (power), 20 VSSA (power), 21 VREF+ (power), 22 VDDA (power), 27 VSS_4 (power), 28 VDD_4 (power), 49 VCAP_1 (power), 50 VDD_1 (power), 73 VCAP_2 (power), 74 VSS_2 (power), 75 VDD_2 (power), 99 RFU, 100 VDD_3 (power)

## STM32F207VGT7
designator U?
STM32 ARM-based 32-bit MCU Connectivity Line & Ethernet with 1024 kB Flash, 128 kB Internal RAM, -40 to +105癈 Temperature, 100-Pin LQFP, Tray; 0.2_封装规格: LQFP100; 0.1_封装说明: 100-Pin Low-Profile Quad Flat Pack, 14 x 14 mm Body, 0.5 mm Pitch (LQFP100); 1.库作者: 冰凌猫; 2.库版本: v2.0 (2021.03.30); 3.交流分享: Q群514746572,开源更新,欢迎一起交流学习PCB设计; 4.作者声明: 旨为整合最全库集,欢迎转载,禁止商用！-冰凌猫; 5.备注说明: 该库已二次整合过网上各热销库,基本最全,无需重复搜购安装
footprint LQFP100_N (Thin QFP, 100-Leads, Body 14x14mm, Pitch 0.5mm, IPC Medium Density)
footprint LQFP100_L (Thin QFP, 100-Leads, Body 14x14mm, Pitch 0.5mm, IPC High Density)
footprint LQFP100_M (Thin QFP, 100-Leads, Body 14x14mm, Pitch 0.5mm, IPC Low Density)
part A pins: 1 PE2 (io), 2 PE3 (io), 3 PE4 (io), 4 PE5 (io), 5 PE6 (io), 7 PC13 (io), 8 PC14-OSC32_IN (io), 9 PC15-OSC32_OUT (io), 12 PH0-OSC_IN (io), 13 PH1-OSC_OUT (io), 14 NRST (io), 15 PC0 (io), 16 PC1 (io), 17 PC2 (io), 18 PC3 (io), 23 PA0-WKUP (io), 24 PA1 (io), 25 PA2 (io), 26 PA3 (io), 29 PA4 (io), 30 PA5 (io), 31 PA6 (io), 32 PA7 (io), 33 PC4 (io), 34 PC5 (io), 35 PB0 (io), 36 PB1 (io), 37 PB2 (io), 38 PE7 (io), 39 PE8 (io), 40 PE9 (io), 41 PE10 (io), 42 PE11 (io), 43 PE12 (io), 44 PE13 (io), 45 PE14 (io), 46 PE15 (io), 47 PB10 (io), 48 PB11 (io), 51 PB12 (io), 52 PB13 (io), 53 PB14 (io), 54 PB15 (io), 55 PD8 (io), 56 PD9 (io), 57 PD10 (io), 58 PD11 (io), 59 PD12 (io), 60 PD13 (io), 61 PD14 (io), 62 PD15 (io), 63 PC6 (io), 64 PC7 (io), 65 PC8 (io), 66 PC9 (io), 67 PA8 (io), 68 PA9 (io), 69 PA10 (io), 70 PA11 (io), 71 PA12 (io), 72 PA13 (io), 76 PA14 (io), 77 PA15 (io), 78 PC10 (io), 79 PC11 (io), 80 PC12 (io), 81 PD0 (io), 82 PD1 (io), 83 PD2 (io), 84 PD3 (io), 85 PD4 (io), 86 PD5 (io), 87 PD6 (io), 88 PD7 (io), 89 PB3 (io), 90 PB4 (io), 91 PB5 (io), 92 PB6 (io), 93 PB7 (io), 94 BOOT0 (in), 95 PB8 (io), 96 PB9 (io), 97 PE0 (io), 98 PE1 (io)
part B pins: 6 VBAT (power), 10 VSS_5 (power), 11 VDD_5 (power), 19 VDD_12 (power), 20 VSSA (power), 21 VREF+ (power), 22 VDDA (power), 27 VSS_4 (power), 28 VDD_4 (power), 49 VCAP_1 (power), 50 VDD_1 (power), 73 VCAP_2 (power), 74 VSS_2 (power), 75 VDD_2 (power), 99 RFU, 100 VDD_3 (power)

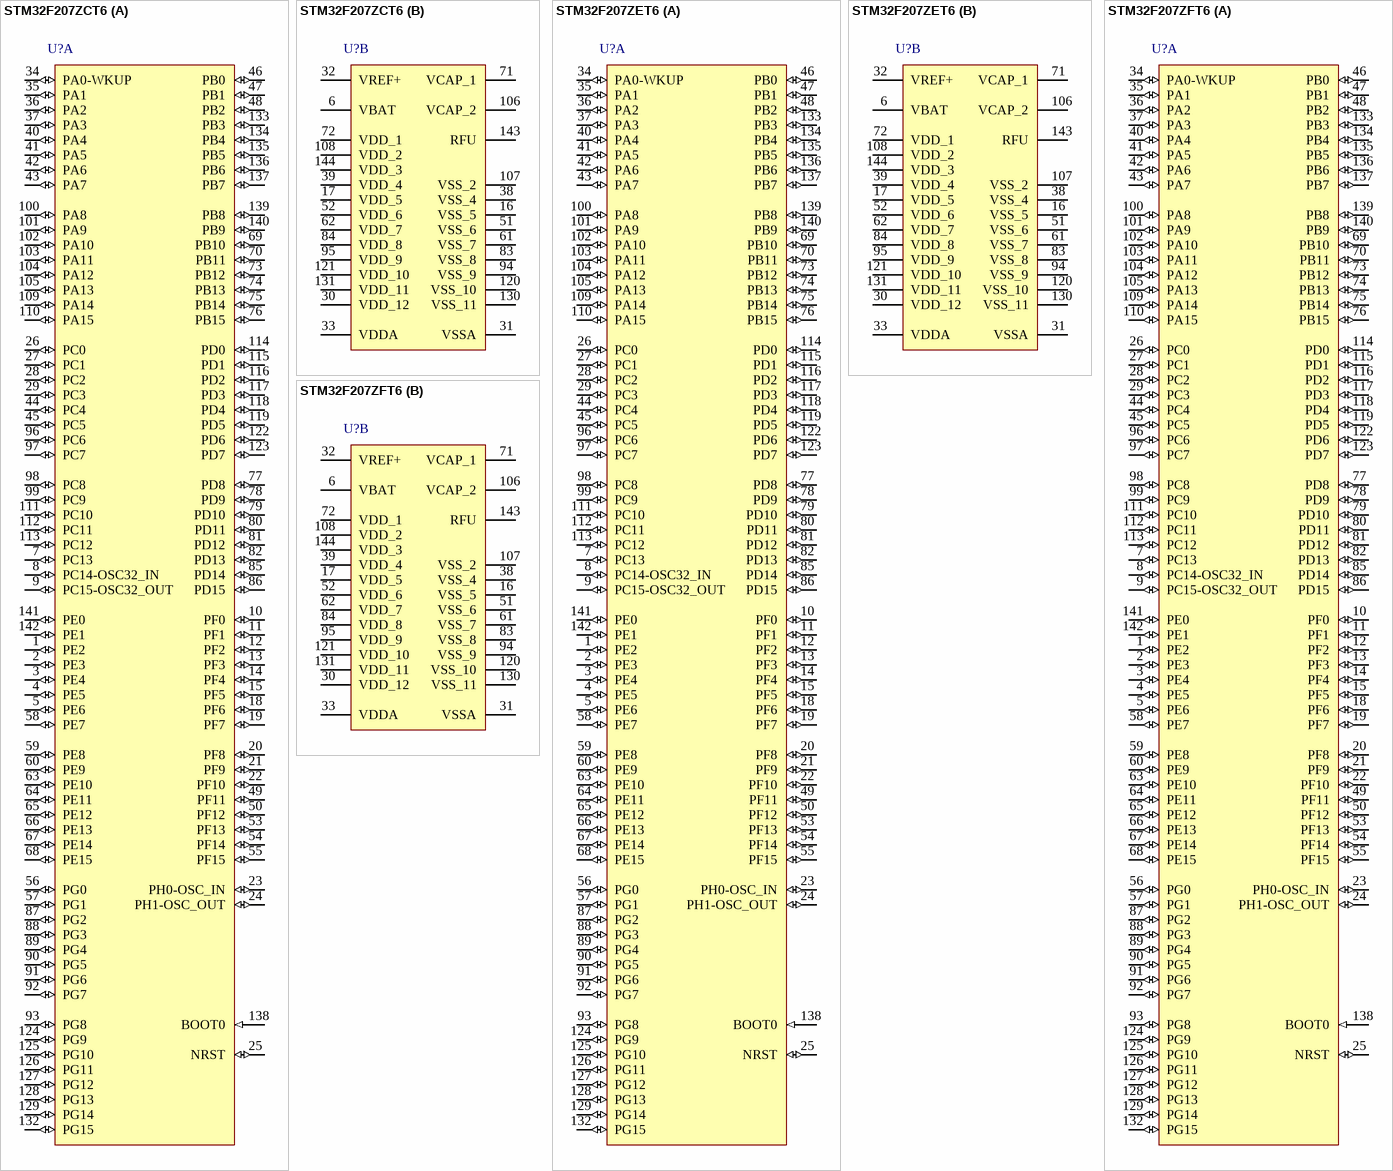
[diagram p9: symbols STM32F207ZCT6 to STM32F207ZFT6]

## STM32F207ZCT6
designator U?
STM32 ARM-based 32-bit MCU Connectivity Line & Ethernet with 256 kB Flash, 128 kB Internal RAM, -40 to +85癈 Temperature, 144-Pin LQFP, Tray; 0.2_封装规格: LQFP144; 0.1_封装说明: 144-Pin Thin Quad Flat Pack 0.5 mm Pitch; 1.库作者: 冰凌猫; 2.库版本: v2.0 (2021.03.30); 3.交流分享: Q群514746572,开源更新,欢迎一起交流学习PCB设计; 4.作者声明: 旨为整合最全库集,欢迎转载,禁止商用！-冰凌猫; 5.备注说明: 该库已二次整合过网上各热销库,基本最全,无需重复搜购安装
footprint LQFP144_N (Thin QFP, 144-Leads, Body 20x20mm, Pitch 0.5mm, IPC Medium Density)
footprint LQFP144_L (Thin QFP, 144-Leads, Body 20x20mm, Pitch 0.5mm, IPC High Density)
footprint LQFP144_M (Thin QFP, 144-Leads, Body 20x20mm, Pitch 0.5mm, IPC Low Density)
part A pins: 1 PE2 (io), 2 PE3 (io), 3 PE4 (io), 4 PE5 (io), 5 PE6 (io), 7 PC13 (io), 8 PC14-OSC32_IN (io), 9 PC15-OSC32_OUT (io), 10 PF0 (io), 11 PF1 (io), 12 PF2 (io), 13 PF3 (io), 14 PF4 (io), 15 PF5 (io), 18 PF6 (io), 19 PF7 (io), 20 PF8 (io), 21 PF9 (io), 22 PF10 (io), 23 PH0-OSC_IN (io), 24 PH1-OSC_OUT (io), 25 NRST (io), 26 PC0 (io), 27 PC1 (io), 28 PC2 (io), 29 PC3 (io), 34 PA0-WKUP (io), 35 PA1 (io), 36 PA2 (io), 37 PA3 (io), 40 PA4 (io), 41 PA5 (io), 42 PA6 (io), 43 PA7 (io), 44 PC4 (io), 45 PC5 (io), 46 PB0 (io), 47 PB1 (io), 48 PB2 (io), 49 PF11 (io), 50 PF12 (io), 53 PF13 (io), 54 PF14 (io), 55 PF15 (io), 56 PG0 (io), 57 PG1 (io), 58 PE7 (io), 59 PE8 (io), 60 PE9 (io), 63 PE10 (io), 64 PE11 (io), 65 PE12 (io), 66 PE13 (io), 67 PE14 (io), 68 PE15 (io), 69 PB10 (io), 70 PB11 (io), 73 PB12 (io), 74 PB13 (io), 75 PB14 (io), 76 PB15 (io), 77 PD8 (io), 78 PD9 (io), 79 PD10 (io), 80 PD11 (io), 81 PD12 (io), 82 PD13 (io), 85 PD14 (io), 86 PD15 (io), 87 PG2 (io), 88 PG3 (io), 89 PG4 (io), 90 PG5 (io), 91 PG6 (io), 92 PG7 (io), 93 PG8 (io), 96 PC6 (io), 97 PC7 (io), 98 PC8 (io), 99 PC9 (io), 100 PA8 (io), 101 PA9 (io), 102 PA10 (io), 103 PA11 (io), 104 PA12 (io), 105 PA13 (io), 109 PA14 (io), 110 PA15 (io), 111 PC10 (io), 112 PC11 (io), 113 PC12 (io), 114 PD0 (io), 115 PD1 (io), 116 PD2 (io), 117 PD3 (io), 118 PD4 (io), 119 PD5 (io), 122 PD6 (io), 123 PD7 (io), 124 PG9 (io), 125 PG10 (io), 126 PG11 (io), 127 PG12 (io), 128 PG13 (io), 129 PG14 (io), 132 PG15 (io), 133 PB3 (io), 134 PB4 (io), 135 PB5 (io), 136 PB6 (io), 137 PB7 (io), 138 BOOT0 (in), 139 PB8 (io), 140 PB9 (io), 141 PE0 (io), 142 PE1 (io)
part B pins: 6 VBAT (power), 16 VSS_5 (power), 17 VDD_5 (power), 30 VDD_12 (power), 31 VSSA (power), 32 VREF+ (power), 33 VDDA (power), 38 VSS_4 (power), 39 VDD_4 (power), 51 VSS_6 (power), 52 VDD_6 (power), 61 VSS_7 (power), 62 VDD_7 (power), 71 VCAP_1, 72 VDD_1 (power), 83 VSS_8 (power), 84 VDD_8 (power), 94 VSS_9 (power), 95 VDD_9 (power), 106 VCAP_2, 107 VSS_2 (power), 108 VDD_2 (power), 120 VSS_10 (power), 121 VDD_10 (power), 130 VSS_11 (power), 131 VDD_11 (power), 143 RFU, 144 VDD_3 (power)

## STM32F207ZET6
designator U?
STM32 ARM-based 32-bit MCU Connectivity Line & Ethernet with 512 kB Flash, 128 kB Internal RAM, -40 to +85癈 Temperature, 144-Pin LQFP, Tray; 0.2_封装规格: LQFP144; 0.1_封装说明: 144-Pin Thin Quad Flat Pack 0.5 mm Pitch; 1.库作者: 冰凌猫; 2.库版本: v2.0 (2021.03.30); 3.交流分享: Q群514746572,开源更新,欢迎一起交流学习PCB设计; 4.作者声明: 旨为整合最全库集,欢迎转载,禁止商用！-冰凌猫; 5.备注说明: 该库已二次整合过网上各热销库,基本最全,无需重复搜购安装
footprint LQFP144_N (Thin QFP, 144-Leads, Body 20x20mm, Pitch 0.5mm, IPC Medium Density)
footprint LQFP144_L (Thin QFP, 144-Leads, Body 20x20mm, Pitch 0.5mm, IPC High Density)
footprint LQFP144_M (Thin QFP, 144-Leads, Body 20x20mm, Pitch 0.5mm, IPC Low Density)
part A pins: 1 PE2 (io), 2 PE3 (io), 3 PE4 (io), 4 PE5 (io), 5 PE6 (io), 7 PC13 (io), 8 PC14-OSC32_IN (io), 9 PC15-OSC32_OUT (io), 10 PF0 (io), 11 PF1 (io), 12 PF2 (io), 13 PF3 (io), 14 PF4 (io), 15 PF5 (io), 18 PF6 (io), 19 PF7 (io), 20 PF8 (io), 21 PF9 (io), 22 PF10 (io), 23 PH0-OSC_IN (io), 24 PH1-OSC_OUT (io), 25 NRST (io), 26 PC0 (io), 27 PC1 (io), 28 PC2 (io), 29 PC3 (io), 34 PA0-WKUP (io), 35 PA1 (io), 36 PA2 (io), 37 PA3 (io), 40 PA4 (io), 41 PA5 (io), 42 PA6 (io), 43 PA7 (io), 44 PC4 (io), 45 PC5 (io), 46 PB0 (io), 47 PB1 (io), 48 PB2 (io), 49 PF11 (io), 50 PF12 (io), 53 PF13 (io), 54 PF14 (io), 55 PF15 (io), 56 PG0 (io), 57 PG1 (io), 58 PE7 (io), 59 PE8 (io), 60 PE9 (io), 63 PE10 (io), 64 PE11 (io), 65 PE12 (io), 66 PE13 (io), 67 PE14 (io), 68 PE15 (io), 69 PB10 (io), 70 PB11 (io), 73 PB12 (io), 74 PB13 (io), 75 PB14 (io), 76 PB15 (io), 77 PD8 (io), 78 PD9 (io), 79 PD10 (io), 80 PD11 (io), 81 PD12 (io), 82 PD13 (io), 85 PD14 (io), 86 PD15 (io), 87 PG2 (io), 88 PG3 (io), 89 PG4 (io), 90 PG5 (io), 91 PG6 (io), 92 PG7 (io), 93 PG8 (io), 96 PC6 (io), 97 PC7 (io), 98 PC8 (io), 99 PC9 (io), 100 PA8 (io), 101 PA9 (io), 102 PA10 (io), 103 PA11 (io), 104 PA12 (io), 105 PA13 (io), 109 PA14 (io), 110 PA15 (io), 111 PC10 (io), 112 PC11 (io), 113 PC12 (io), 114 PD0 (io), 115 PD1 (io), 116 PD2 (io), 117 PD3 (io), 118 PD4 (io), 119 PD5 (io), 122 PD6 (io), 123 PD7 (io), 124 PG9 (io), 125 PG10 (io), 126 PG11 (io), 127 PG12 (io), 128 PG13 (io), 129 PG14 (io), 132 PG15 (io), 133 PB3 (io), 134 PB4 (io), 135 PB5 (io), 136 PB6 (io), 137 PB7 (io), 138 BOOT0 (in), 139 PB8 (io), 140 PB9 (io), 141 PE0 (io), 142 PE1 (io)
part B pins: 6 VBAT (power), 16 VSS_5 (power), 17 VDD_5 (power), 30 VDD_12 (power), 31 VSSA (power), 32 VREF+ (power), 33 VDDA (power), 38 VSS_4 (power), 39 VDD_4 (power), 51 VSS_6 (power), 52 VDD_6 (power), 61 VSS_7 (power), 62 VDD_7 (power), 71 VCAP_1, 72 VDD_1 (power), 83 VSS_8 (power), 84 VDD_8 (power), 94 VSS_9 (power), 95 VDD_9 (power), 106 VCAP_2, 107 VSS_2 (power), 108 VDD_2 (power), 120 VSS_10 (power), 121 VDD_10 (power), 130 VSS_11 (power), 131 VDD_11 (power), 143 RFU, 144 VDD_3 (power)

## STM32F207ZFT6
designator U?
STM32 ARM-based 32-bit MCU Connectivity Line & Ethernet with 768 kB Flash, 128 kB Internal RAM, -40 to +85癈 Temperature, 144-Pin LQFP, Tray; 0.2_封装规格: LQFP144; 0.1_封装说明: 144-Pin Thin Quad Flat Pack 0.5 mm Pitch; 1.库作者: 冰凌猫; 2.库版本: v2.0 (2021.03.30); 3.交流分享: Q群514746572,开源更新,欢迎一起交流学习PCB设计; 4.作者声明: 旨为整合最全库集,欢迎转载,禁止商用！-冰凌猫; 5.备注说明: 该库已二次整合过网上各热销库,基本最全,无需重复搜购安装
footprint LQFP144_N (Thin QFP, 144-Leads, Body 20x20mm, Pitch 0.5mm, IPC Medium Density)
footprint LQFP144_L (Thin QFP, 144-Leads, Body 20x20mm, Pitch 0.5mm, IPC High Density)
footprint LQFP144_M (Thin QFP, 144-Leads, Body 20x20mm, Pitch 0.5mm, IPC Low Density)
part A pins: 1 PE2 (io), 2 PE3 (io), 3 PE4 (io), 4 PE5 (io), 5 PE6 (io), 7 PC13 (io), 8 PC14-OSC32_IN (io), 9 PC15-OSC32_OUT (io), 10 PF0 (io), 11 PF1 (io), 12 PF2 (io), 13 PF3 (io), 14 PF4 (io), 15 PF5 (io), 18 PF6 (io), 19 PF7 (io), 20 PF8 (io), 21 PF9 (io), 22 PF10 (io), 23 PH0-OSC_IN (io), 24 PH1-OSC_OUT (io), 25 NRST (io), 26 PC0 (io), 27 PC1 (io), 28 PC2 (io), 29 PC3 (io), 34 PA0-WKUP (io), 35 PA1 (io), 36 PA2 (io), 37 PA3 (io), 40 PA4 (io), 41 PA5 (io), 42 PA6 (io), 43 PA7 (io), 44 PC4 (io), 45 PC5 (io), 46 PB0 (io), 47 PB1 (io), 48 PB2 (io), 49 PF11 (io), 50 PF12 (io), 53 PF13 (io), 54 PF14 (io), 55 PF15 (io), 56 PG0 (io), 57 PG1 (io), 58 PE7 (io), 59 PE8 (io), 60 PE9 (io), 63 PE10 (io), 64 PE11 (io), 65 PE12 (io), 66 PE13 (io), 67 PE14 (io), 68 PE15 (io), 69 PB10 (io), 70 PB11 (io), 73 PB12 (io), 74 PB13 (io), 75 PB14 (io), 76 PB15 (io), 77 PD8 (io), 78 PD9 (io), 79 PD10 (io), 80 PD11 (io), 81 PD12 (io), 82 PD13 (io), 85 PD14 (io), 86 PD15 (io), 87 PG2 (io), 88 PG3 (io), 89 PG4 (io), 90 PG5 (io), 91 PG6 (io), 92 PG7 (io), 93 PG8 (io), 96 PC6 (io), 97 PC7 (io), 98 PC8 (io), 99 PC9 (io), 100 PA8 (io), 101 PA9 (io), 102 PA10 (io), 103 PA11 (io), 104 PA12 (io), 105 PA13 (io), 109 PA14 (io), 110 PA15 (io), 111 PC10 (io), 112 PC11 (io), 113 PC12 (io), 114 PD0 (io), 115 PD1 (io), 116 PD2 (io), 117 PD3 (io), 118 PD4 (io), 119 PD5 (io), 122 PD6 (io), 123 PD7 (io), 124 PG9 (io), 125 PG10 (io), 126 PG11 (io), 127 PG12 (io), 128 PG13 (io), 129 PG14 (io), 132 PG15 (io), 133 PB3 (io), 134 PB4 (io), 135 PB5 (io), 136 PB6 (io), 137 PB7 (io), 138 BOOT0 (in), 139 PB8 (io), 140 PB9 (io), 141 PE0 (io), 142 PE1 (io)
part B pins: 6 VBAT (power), 16 VSS_5 (power), 17 VDD_5 (power), 30 VDD_12 (power), 31 VSSA (power), 32 VREF+ (power), 33 VDDA (power), 38 VSS_4 (power), 39 VDD_4 (power), 51 VSS_6 (power), 52 VDD_6 (power), 61 VSS_7 (power), 62 VDD_7 (power), 71 VCAP_1, 72 VDD_1 (power), 83 VSS_8 (power), 84 VDD_8 (power), 94 VSS_9 (power), 95 VDD_9 (power), 106 VCAP_2, 107 VSS_2 (power), 108 VDD_2 (power), 120 VSS_10 (power), 121 VDD_10 (power), 130 VSS_11 (power), 131 VDD_11 (power), 143 RFU, 144 VDD_3 (power)

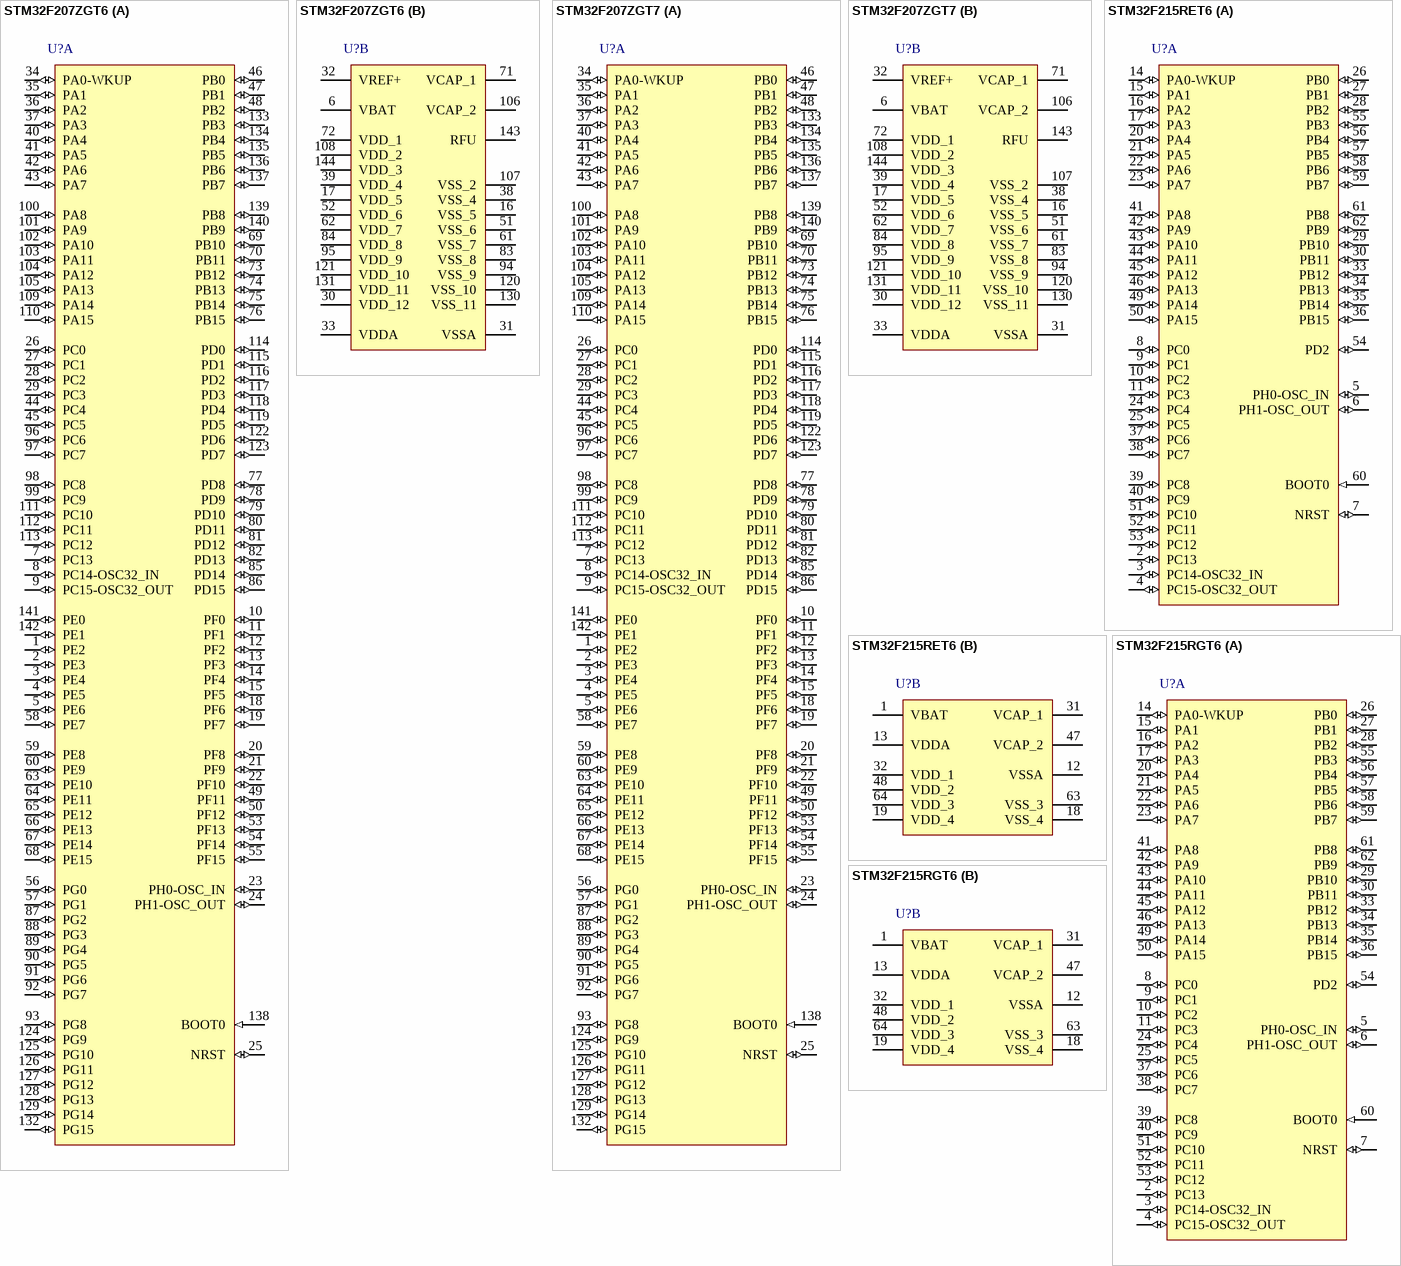
[diagram p10: symbols STM32F207ZGT6 to STM32F215RGT6]

## STM32F207ZGT6
designator U?
STM32 ARM-based 32-bit MCU Connectivity Line & Ethernet with 1024 kB Flash, 128 kB Internal RAM, -40 to +85癈 Temperature, 144-Pin LQFP, Tray; 0.2_封装规格: LQFP144; 0.1_封装说明: 144-Pin Thin Quad Flat Pack 0.5 mm Pitch; 1.库作者: 冰凌猫; 2.库版本: v2.0 (2021.03.30); 3.交流分享: Q群514746572,开源更新,欢迎一起交流学习PCB设计; 4.作者声明: 旨为整合最全库集,欢迎转载,禁止商用！-冰凌猫; 5.备注说明: 该库已二次整合过网上各热销库,基本最全,无需重复搜购安装
footprint LQFP144_N (Thin QFP, 144-Leads, Body 20x20mm, Pitch 0.5mm, IPC Medium Density)
footprint LQFP144_L (Thin QFP, 144-Leads, Body 20x20mm, Pitch 0.5mm, IPC High Density)
footprint LQFP144_M (Thin QFP, 144-Leads, Body 20x20mm, Pitch 0.5mm, IPC Low Density)
part A pins: 1 PE2 (io), 2 PE3 (io), 3 PE4 (io), 4 PE5 (io), 5 PE6 (io), 7 PC13 (io), 8 PC14-OSC32_IN (io), 9 PC15-OSC32_OUT (io), 10 PF0 (io), 11 PF1 (io), 12 PF2 (io), 13 PF3 (io), 14 PF4 (io), 15 PF5 (io), 18 PF6 (io), 19 PF7 (io), 20 PF8 (io), 21 PF9 (io), 22 PF10 (io), 23 PH0-OSC_IN (io), 24 PH1-OSC_OUT (io), 25 NRST (io), 26 PC0 (io), 27 PC1 (io), 28 PC2 (io), 29 PC3 (io), 34 PA0-WKUP (io), 35 PA1 (io), 36 PA2 (io), 37 PA3 (io), 40 PA4 (io), 41 PA5 (io), 42 PA6 (io), 43 PA7 (io), 44 PC4 (io), 45 PC5 (io), 46 PB0 (io), 47 PB1 (io), 48 PB2 (io), 49 PF11 (io), 50 PF12 (io), 53 PF13 (io), 54 PF14 (io), 55 PF15 (io), 56 PG0 (io), 57 PG1 (io), 58 PE7 (io), 59 PE8 (io), 60 PE9 (io), 63 PE10 (io), 64 PE11 (io), 65 PE12 (io), 66 PE13 (io), 67 PE14 (io), 68 PE15 (io), 69 PB10 (io), 70 PB11 (io), 73 PB12 (io), 74 PB13 (io), 75 PB14 (io), 76 PB15 (io), 77 PD8 (io), 78 PD9 (io), 79 PD10 (io), 80 PD11 (io), 81 PD12 (io), 82 PD13 (io), 85 PD14 (io), 86 PD15 (io), 87 PG2 (io), 88 PG3 (io), 89 PG4 (io), 90 PG5 (io), 91 PG6 (io), 92 PG7 (io), 93 PG8 (io), 96 PC6 (io), 97 PC7 (io), 98 PC8 (io), 99 PC9 (io), 100 PA8 (io), 101 PA9 (io), 102 PA10 (io), 103 PA11 (io), 104 PA12 (io), 105 PA13 (io), 109 PA14 (io), 110 PA15 (io), 111 PC10 (io), 112 PC11 (io), 113 PC12 (io), 114 PD0 (io), 115 PD1 (io), 116 PD2 (io), 117 PD3 (io), 118 PD4 (io), 119 PD5 (io), 122 PD6 (io), 123 PD7 (io), 124 PG9 (io), 125 PG10 (io), 126 PG11 (io), 127 PG12 (io), 128 PG13 (io), 129 PG14 (io), 132 PG15 (io), 133 PB3 (io), 134 PB4 (io), 135 PB5 (io), 136 PB6 (io), 137 PB7 (io), 138 BOOT0 (in), 139 PB8 (io), 140 PB9 (io), 141 PE0 (io), 142 PE1 (io)
part B pins: 6 VBAT (power), 16 VSS_5 (power), 17 VDD_5 (power), 30 VDD_12 (power), 31 VSSA (power), 32 VREF+ (power), 33 VDDA (power), 38 VSS_4 (power), 39 VDD_4 (power), 51 VSS_6 (power), 52 VDD_6 (power), 61 VSS_7 (power), 62 VDD_7 (power), 71 VCAP_1, 72 VDD_1 (power), 83 VSS_8 (power), 84 VDD_8 (power), 94 VSS_9 (power), 95 VDD_9 (power), 106 VCAP_2, 107 VSS_2 (power), 108 VDD_2 (power), 120 VSS_10 (power), 121 VDD_10 (power), 130 VSS_11 (power), 131 VDD_11 (power), 143 RFU, 144 VDD_3 (power)

## STM32F207ZGT7
designator U?
STM32 ARM-based 32-bit MCU Connectivity Line & Ethernet with 1024 kB Flash, 128 kB Internal RAM, -40 to +105癈 Temperature, 144-Pin LQFP, Tray; 0.2_封装规格: LQFP144; 0.1_封装说明: 144-Pin Thin Quad Flat Pack 0.5 mm Pitch; 1.库作者: 冰凌猫; 2.库版本: v2.0 (2021.03.30); 3.交流分享: Q群514746572,开源更新,欢迎一起交流学习PCB设计; 4.作者声明: 旨为整合最全库集,欢迎转载,禁止商用！-冰凌猫; 5.备注说明: 该库已二次整合过网上各热销库,基本最全,无需重复搜购安装
footprint LQFP144_N (Thin QFP, 144-Leads, Body 20x20mm, Pitch 0.5mm, IPC Medium Density)
footprint LQFP144_L (Thin QFP, 144-Leads, Body 20x20mm, Pitch 0.5mm, IPC High Density)
footprint LQFP144_M (Thin QFP, 144-Leads, Body 20x20mm, Pitch 0.5mm, IPC Low Density)
part A pins: 1 PE2 (io), 2 PE3 (io), 3 PE4 (io), 4 PE5 (io), 5 PE6 (io), 7 PC13 (io), 8 PC14-OSC32_IN (io), 9 PC15-OSC32_OUT (io), 10 PF0 (io), 11 PF1 (io), 12 PF2 (io), 13 PF3 (io), 14 PF4 (io), 15 PF5 (io), 18 PF6 (io), 19 PF7 (io), 20 PF8 (io), 21 PF9 (io), 22 PF10 (io), 23 PH0-OSC_IN (io), 24 PH1-OSC_OUT (io), 25 NRST (io), 26 PC0 (io), 27 PC1 (io), 28 PC2 (io), 29 PC3 (io), 34 PA0-WKUP (io), 35 PA1 (io), 36 PA2 (io), 37 PA3 (io), 40 PA4 (io), 41 PA5 (io), 42 PA6 (io), 43 PA7 (io), 44 PC4 (io), 45 PC5 (io), 46 PB0 (io), 47 PB1 (io), 48 PB2 (io), 49 PF11 (io), 50 PF12 (io), 53 PF13 (io), 54 PF14 (io), 55 PF15 (io), 56 PG0 (io), 57 PG1 (io), 58 PE7 (io), 59 PE8 (io), 60 PE9 (io), 63 PE10 (io), 64 PE11 (io), 65 PE12 (io), 66 PE13 (io), 67 PE14 (io), 68 PE15 (io), 69 PB10 (io), 70 PB11 (io), 73 PB12 (io), 74 PB13 (io), 75 PB14 (io), 76 PB15 (io), 77 PD8 (io), 78 PD9 (io), 79 PD10 (io), 80 PD11 (io), 81 PD12 (io), 82 PD13 (io), 85 PD14 (io), 86 PD15 (io), 87 PG2 (io), 88 PG3 (io), 89 PG4 (io), 90 PG5 (io), 91 PG6 (io), 92 PG7 (io), 93 PG8 (io), 96 PC6 (io), 97 PC7 (io), 98 PC8 (io), 99 PC9 (io), 100 PA8 (io), 101 PA9 (io), 102 PA10 (io), 103 PA11 (io), 104 PA12 (io), 105 PA13 (io), 109 PA14 (io), 110 PA15 (io), 111 PC10 (io), 112 PC11 (io), 113 PC12 (io), 114 PD0 (io), 115 PD1 (io), 116 PD2 (io), 117 PD3 (io), 118 PD4 (io), 119 PD5 (io), 122 PD6 (io), 123 PD7 (io), 124 PG9 (io), 125 PG10 (io), 126 PG11 (io), 127 PG12 (io), 128 PG13 (io), 129 PG14 (io), 132 PG15 (io), 133 PB3 (io), 134 PB4 (io), 135 PB5 (io), 136 PB6 (io), 137 PB7 (io), 138 BOOT0 (in), 139 PB8 (io), 140 PB9 (io), 141 PE0 (io), 142 PE1 (io)
part B pins: 6 VBAT (power), 16 VSS_5 (power), 17 VDD_5 (power), 30 VDD_12 (power), 31 VSSA (power), 32 VREF+ (power), 33 VDDA (power), 38 VSS_4 (power), 39 VDD_4 (power), 51 VSS_6 (power), 52 VDD_6 (power), 61 VSS_7 (power), 62 VDD_7 (power), 71 VCAP_1, 72 VDD_1 (power), 83 VSS_8 (power), 84 VDD_8 (power), 94 VSS_9 (power), 95 VDD_9 (power), 106 VCAP_2, 107 VSS_2 (power), 108 VDD_2 (power), 120 VSS_10 (power), 121 VDD_10 (power), 130 VSS_11 (power), 131 VDD_11 (power), 143 RFU, 144 VDD_3 (power)

## STM32F215RET6
designator U?
STM32 ARM-based 32-bit MCU Connectivity Line with 512 kB Flash, 128 kB Internal RAM, -40 to +85癈 Temperature, 64-Pin LQFP, Tray; 0.2_封装规格: LQFP64; 0.1_封装说明: 64-Pin Low-Profile Quad Flat Pack, 10 x 10 mm Body, 0.5 mm Pitch (LQFP64); 1.库作者: 冰凌猫; 2.库版本: v2.0 (2021.03.30); 3.交流分享: Q群514746572,开源更新,欢迎一起交流学习PCB设计; 4.作者声明: 旨为整合最全库集,欢迎转载,禁止商用！-冰凌猫; 5.备注说明: 该库已二次整合过网上各热销库,基本最全,无需重复搜购安装
footprint LQFP64_N (Thin QFP, 64-Leads, Body 10x10mm, Pitch 0.5mm, IPC Medium Density)
footprint LQFP64_L (Thin QFP, 64-Leads, Body 10x10mm, Pitch 0.5mm, IPC High Density)
footprint LQFP64_M (Thin QFP, 64-Leads, Body 10x10mm, Pitch 0.5mm, IPC Low Density)
part A pins: 2 PC13 (io), 3 PC14-OSC32_IN (io), 4 PC15-OSC32_OUT (io), 5 PH0-OSC_IN (io), 6 PH1-OSC_OUT (io), 7 NRST (io), 8 PC0 (io), 9 PC1 (io), 10 PC2 (io), 11 PC3 (io), 14 PA0-WKUP (io), 15 PA1 (io), 16 PA2 (io), 17 PA3 (io), 20 PA4 (io), 21 PA5 (io), 22 PA6 (io), 23 PA7 (io), 24 PC4 (io), 25 PC5 (io), 26 PB0 (io), 27 PB1 (io), 28 PB2 (io), 29 PB10 (io), 30 PB11 (io), 33 PB12 (io), 34 PB13 (io), 35 PB14 (io), 36 PB15 (io), 37 PC6 (io), 38 PC7 (io), 39 PC8 (io), 40 PC9 (io), 41 PA8 (io), 42 PA9 (io), 43 PA10 (io), 44 PA11 (io), 45 PA12 (io), 46 PA13 (io), 49 PA14 (io), 50 PA15 (io), 51 PC10 (io), 52 PC11 (io), 53 PC12 (io), 54 PD2 (io), 55 PB3 (io), 56 PB4 (io), 57 PB5 (io), 58 PB6 (io), 59 PB7 (io), 60 BOOT0 (in), 61 PB8 (io), 62 PB9 (io)
part B pins: 1 VBAT (power), 12 VSSA (power), 13 VDDA (power), 18 VSS_4 (power), 19 VDD_4 (power), 31 VCAP_1, 32 VDD_1 (power), 47 VCAP_2, 48 VDD_2 (power), 63 VSS_3 (power), 64 VDD_3 (power)

## STM32F215RGT6
designator U?
STM32 ARM-based 32-bit MCU Connectivity Line with 1024 kB Flash, 128 kB Internal RAM, -40 to +85癈 Temperature, 64-Pin LQFP, Tray; 0.2_封装规格: LQFP64; 0.1_封装说明: 64-Pin Low-Profile Quad Flat Pack, 10 x 10 mm Body, 0.5 mm Pitch (LQFP64); 1.库作者: 冰凌猫; 2.库版本: v2.0 (2021.03.30); 3.交流分享: Q群514746572,开源更新,欢迎一起交流学习PCB设计; 4.作者声明: 旨为整合最全库集,欢迎转载,禁止商用！-冰凌猫; 5.备注说明: 该库已二次整合过网上各热销库,基本最全,无需重复搜购安装
footprint LQFP64_N (Thin QFP, 64-Leads, Body 10x10mm, Pitch 0.5mm, IPC Medium Density)
footprint LQFP64_L (Thin QFP, 64-Leads, Body 10x10mm, Pitch 0.5mm, IPC High Density)
footprint LQFP64_M (Thin QFP, 64-Leads, Body 10x10mm, Pitch 0.5mm, IPC Low Density)
part A pins: 2 PC13 (io), 3 PC14-OSC32_IN (io), 4 PC15-OSC32_OUT (io), 5 PH0-OSC_IN (io), 6 PH1-OSC_OUT (io), 7 NRST (io), 8 PC0 (io), 9 PC1 (io), 10 PC2 (io), 11 PC3 (io), 14 PA0-WKUP (io), 15 PA1 (io), 16 PA2 (io), 17 PA3 (io), 20 PA4 (io), 21 PA5 (io), 22 PA6 (io), 23 PA7 (io), 24 PC4 (io), 25 PC5 (io), 26 PB0 (io), 27 PB1 (io), 28 PB2 (io), 29 PB10 (io), 30 PB11 (io), 33 PB12 (io), 34 PB13 (io), 35 PB14 (io), 36 PB15 (io), 37 PC6 (io), 38 PC7 (io), 39 PC8 (io), 40 PC9 (io), 41 PA8 (io), 42 PA9 (io), 43 PA10 (io), 44 PA11 (io), 45 PA12 (io), 46 PA13 (io), 49 PA14 (io), 50 PA15 (io), 51 PC10 (io), 52 PC11 (io), 53 PC12 (io), 54 PD2 (io), 55 PB3 (io), 56 PB4 (io), 57 PB5 (io), 58 PB6 (io), 59 PB7 (io), 60 BOOT0 (in), 61 PB8 (io), 62 PB9 (io)
part B pins: 1 VBAT (power), 12 VSSA (power), 13 VDDA (power), 18 VSS_4 (power), 19 VDD_4 (power), 31 VCAP_1, 32 VDD_1 (power), 47 VCAP_2, 48 VDD_2 (power), 63 VSS_3 (power), 64 VDD_3 (power)

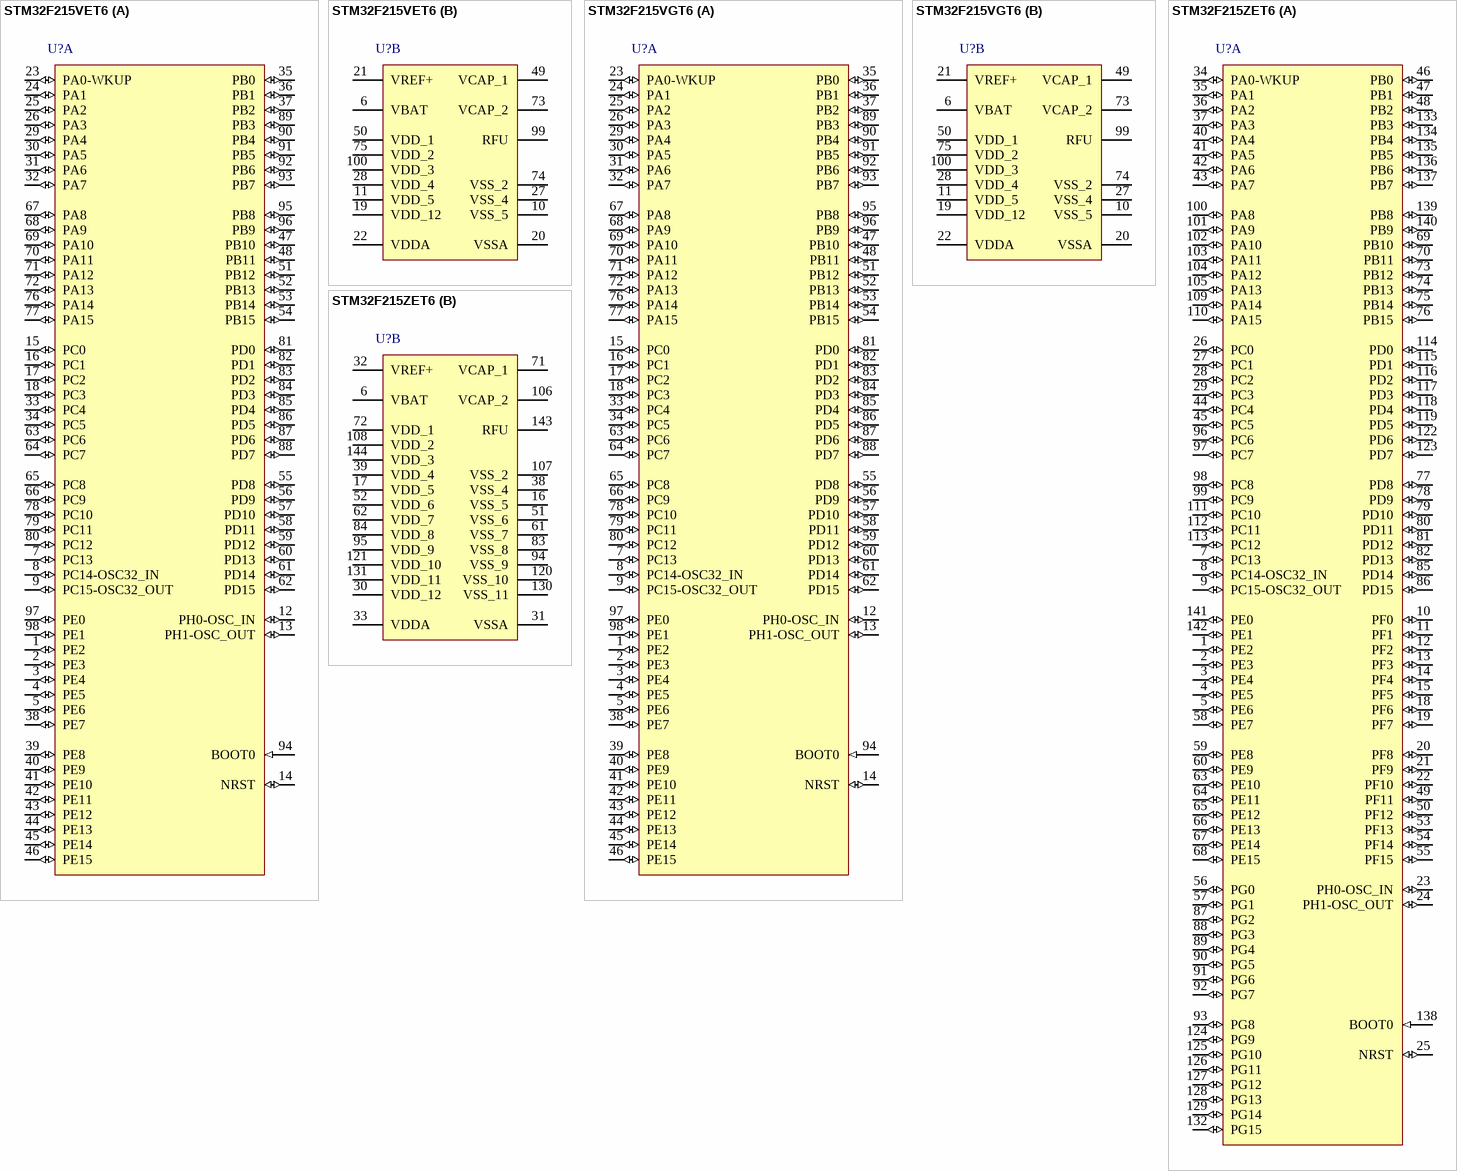
[diagram p11: symbols STM32F215VET6 to STM32F215ZET6]

## STM32F215VET6
designator U?
STM32 ARM-based 32-bit MCU Connectivity Line with 512 kB Flash, 128 kB Internal RAM, -40 to +85癈 Temperature, 100-Pin LQFP, Tray; 0.2_封装规格: LQFP100; 0.1_封装说明: 100-Pin Low-Profile Quad Flat Pack, 14 x 14 mm Body, 0.5 mm Pitch (LQFP100); 1.库作者: 冰凌猫; 2.库版本: v2.0 (2021.03.30); 3.交流分享: Q群514746572,开源更新,欢迎一起交流学习PCB设计; 4.作者声明: 旨为整合最全库集,欢迎转载,禁止商用！-冰凌猫; 5.备注说明: 该库已二次整合过网上各热销库,基本最全,无需重复搜购安装
footprint LQFP100_N (Thin QFP, 100-Leads, Body 14x14mm, Pitch 0.5mm, IPC Medium Density)
footprint LQFP100_L (Thin QFP, 100-Leads, Body 14x14mm, Pitch 0.5mm, IPC High Density)
footprint LQFP100_M (Thin QFP, 100-Leads, Body 14x14mm, Pitch 0.5mm, IPC Low Density)
part A pins: 1 PE2 (io), 2 PE3 (io), 3 PE4 (io), 4 PE5 (io), 5 PE6 (io), 7 PC13 (io), 8 PC14-OSC32_IN (io), 9 PC15-OSC32_OUT (io), 12 PH0-OSC_IN (io), 13 PH1-OSC_OUT (io), 14 NRST (io), 15 PC0 (io), 16 PC1 (io), 17 PC2 (io), 18 PC3 (io), 23 PA0-WKUP (io), 24 PA1 (io), 25 PA2 (io), 26 PA3 (io), 29 PA4 (io), 30 PA5 (io), 31 PA6 (io), 32 PA7 (io), 33 PC4 (io), 34 PC5 (io), 35 PB0 (io), 36 PB1 (io), 37 PB2 (io), 38 PE7 (io), 39 PE8 (io), 40 PE9 (io), 41 PE10 (io), 42 PE11 (io), 43 PE12 (io), 44 PE13 (io), 45 PE14 (io), 46 PE15 (io), 47 PB10 (io), 48 PB11 (io), 51 PB12 (io), 52 PB13 (io), 53 PB14 (io), 54 PB15 (io), 55 PD8 (io), 56 PD9 (io), 57 PD10 (io), 58 PD11 (io), 59 PD12 (io), 60 PD13 (io), 61 PD14 (io), 62 PD15 (io), 63 PC6 (io), 64 PC7 (io), 65 PC8 (io), 66 PC9 (io), 67 PA8 (io), 68 PA9 (io), 69 PA10 (io), 70 PA11 (io), 71 PA12 (io), 72 PA13 (io), 76 PA14 (io), 77 PA15 (io), 78 PC10 (io), 79 PC11 (io), 80 PC12 (io), 81 PD0 (io), 82 PD1 (io), 83 PD2 (io), 84 PD3 (io), 85 PD4 (io), 86 PD5 (io), 87 PD6 (io), 88 PD7 (io), 89 PB3 (io), 90 PB4 (io), 91 PB5 (io), 92 PB6 (io), 93 PB7 (io), 94 BOOT0 (in), 95 PB8 (io), 96 PB9 (io), 97 PE0 (io), 98 PE1 (io)
part B pins: 6 VBAT (power), 10 VSS_5 (power), 11 VDD_5 (power), 19 VDD_12 (power), 20 VSSA (power), 21 VREF+ (power), 22 VDDA (power), 27 VSS_4 (power), 28 VDD_4 (power), 49 VCAP_1 (power), 50 VDD_1 (power), 73 VCAP_2 (power), 74 VSS_2 (power), 75 VDD_2 (power), 99 RFU, 100 VDD_3 (power)

## STM32F215VGT6
designator U?
STM32 ARM-based 32-bit MCU Connectivity Line with 1024 kB Flash, 128 kB Internal RAM, -40 to +85癈 Temperature, 100-Pin LQFP, Tray; 0.2_封装规格: LQFP100; 0.1_封装说明: 100-Pin Low-Profile Quad Flat Pack, 14 x 14 mm Body, 0.5 mm Pitch (LQFP100); 1.库作者: 冰凌猫; 2.库版本: v2.0 (2021.03.30); 3.交流分享: Q群514746572,开源更新,欢迎一起交流学习PCB设计; 4.作者声明: 旨为整合最全库集,欢迎转载,禁止商用！-冰凌猫; 5.备注说明: 该库已二次整合过网上各热销库,基本最全,无需重复搜购安装
footprint LQFP100_N (Thin QFP, 100-Leads, Body 14x14mm, Pitch 0.5mm, IPC Medium Density)
footprint LQFP100_L (Thin QFP, 100-Leads, Body 14x14mm, Pitch 0.5mm, IPC High Density)
footprint LQFP100_M (Thin QFP, 100-Leads, Body 14x14mm, Pitch 0.5mm, IPC Low Density)
part A pins: 1 PE2 (io), 2 PE3 (io), 3 PE4 (io), 4 PE5 (io), 5 PE6 (io), 7 PC13 (io), 8 PC14-OSC32_IN (io), 9 PC15-OSC32_OUT (io), 12 PH0-OSC_IN (io), 13 PH1-OSC_OUT (io), 14 NRST (io), 15 PC0 (io), 16 PC1 (io), 17 PC2 (io), 18 PC3 (io), 23 PA0-WKUP (io), 24 PA1 (io), 25 PA2 (io), 26 PA3 (io), 29 PA4 (io), 30 PA5 (io), 31 PA6 (io), 32 PA7 (io), 33 PC4 (io), 34 PC5 (io), 35 PB0 (io), 36 PB1 (io), 37 PB2 (io), 38 PE7 (io), 39 PE8 (io), 40 PE9 (io), 41 PE10 (io), 42 PE11 (io), 43 PE12 (io), 44 PE13 (io), 45 PE14 (io), 46 PE15 (io), 47 PB10 (io), 48 PB11 (io), 51 PB12 (io), 52 PB13 (io), 53 PB14 (io), 54 PB15 (io), 55 PD8 (io), 56 PD9 (io), 57 PD10 (io), 58 PD11 (io), 59 PD12 (io), 60 PD13 (io), 61 PD14 (io), 62 PD15 (io), 63 PC6 (io), 64 PC7 (io), 65 PC8 (io), 66 PC9 (io), 67 PA8 (io), 68 PA9 (io), 69 PA10 (io), 70 PA11 (io), 71 PA12 (io), 72 PA13 (io), 76 PA14 (io), 77 PA15 (io), 78 PC10 (io), 79 PC11 (io), 80 PC12 (io), 81 PD0 (io), 82 PD1 (io), 83 PD2 (io), 84 PD3 (io), 85 PD4 (io), 86 PD5 (io), 87 PD6 (io), 88 PD7 (io), 89 PB3 (io), 90 PB4 (io), 91 PB5 (io), 92 PB6 (io), 93 PB7 (io), 94 BOOT0 (in), 95 PB8 (io), 96 PB9 (io), 97 PE0 (io), 98 PE1 (io)
part B pins: 6 VBAT (power), 10 VSS_5 (power), 11 VDD_5 (power), 19 VDD_12 (power), 20 VSSA (power), 21 VREF+ (power), 22 VDDA (power), 27 VSS_4 (power), 28 VDD_4 (power), 49 VCAP_1 (power), 50 VDD_1 (power), 73 VCAP_2 (power), 74 VSS_2 (power), 75 VDD_2 (power), 99 RFU, 100 VDD_3 (power)

## STM32F215ZET6
designator U?
STM32 ARM-based 32-bit MCU Connectivity Line with 512 kB Flash, 128 kB Internal RAM, -40 to +85癈 Temperature, 144-Pin LQFP, Tray; 0.2_封装规格: LQFP144; 0.1_封装说明: 144-Pin Thin Quad Flat Pack 0.5 mm Pitch; 1.库作者: 冰凌猫; 2.库版本: v2.0 (2021.03.30); 3.交流分享: Q群514746572,开源更新,欢迎一起交流学习PCB设计; 4.作者声明: 旨为整合最全库集,欢迎转载,禁止商用！-冰凌猫; 5.备注说明: 该库已二次整合过网上各热销库,基本最全,无需重复搜购安装
footprint LQFP144_N (Thin QFP, 144-Leads, Body 20x20mm, Pitch 0.5mm, IPC Medium Density)
footprint LQFP144_L (Thin QFP, 144-Leads, Body 20x20mm, Pitch 0.5mm, IPC High Density)
footprint LQFP144_M (Thin QFP, 144-Leads, Body 20x20mm, Pitch 0.5mm, IPC Low Density)
part A pins: 1 PE2 (io), 2 PE3 (io), 3 PE4 (io), 4 PE5 (io), 5 PE6 (io), 7 PC13 (io), 8 PC14-OSC32_IN (io), 9 PC15-OSC32_OUT (io), 10 PF0 (io), 11 PF1 (io), 12 PF2 (io), 13 PF3 (io), 14 PF4 (io), 15 PF5 (io), 18 PF6 (io), 19 PF7 (io), 20 PF8 (io), 21 PF9 (io), 22 PF10 (io), 23 PH0-OSC_IN (io), 24 PH1-OSC_OUT (io), 25 NRST (io), 26 PC0 (io), 27 PC1 (io), 28 PC2 (io), 29 PC3 (io), 34 PA0-WKUP (io), 35 PA1 (io), 36 PA2 (io), 37 PA3 (io), 40 PA4 (io), 41 PA5 (io), 42 PA6 (io), 43 PA7 (io), 44 PC4 (io), 45 PC5 (io), 46 PB0 (io), 47 PB1 (io), 48 PB2 (io), 49 PF11 (io), 50 PF12 (io), 53 PF13 (io), 54 PF14 (io), 55 PF15 (io), 56 PG0 (io), 57 PG1 (io), 58 PE7 (io), 59 PE8 (io), 60 PE9 (io), 63 PE10 (io), 64 PE11 (io), 65 PE12 (io), 66 PE13 (io), 67 PE14 (io), 68 PE15 (io), 69 PB10 (io), 70 PB11 (io), 73 PB12 (io), 74 PB13 (io), 75 PB14 (io), 76 PB15 (io), 77 PD8 (io), 78 PD9 (io), 79 PD10 (io), 80 PD11 (io), 81 PD12 (io), 82 PD13 (io), 85 PD14 (io), 86 PD15 (io), 87 PG2 (io), 88 PG3 (io), 89 PG4 (io), 90 PG5 (io), 91 PG6 (io), 92 PG7 (io), 93 PG8 (io), 96 PC6 (io), 97 PC7 (io), 98 PC8 (io), 99 PC9 (io), 100 PA8 (io), 101 PA9 (io), 102 PA10 (io), 103 PA11 (io), 104 PA12 (io), 105 PA13 (io), 109 PA14 (io), 110 PA15 (io), 111 PC10 (io), 112 PC11 (io), 113 PC12 (io), 114 PD0 (io), 115 PD1 (io), 116 PD2 (io), 117 PD3 (io), 118 PD4 (io), 119 PD5 (io), 122 PD6 (io), 123 PD7 (io), 124 PG9 (io), 125 PG10 (io), 126 PG11 (io), 127 PG12 (io), 128 PG13 (io), 129 PG14 (io), 132 PG15 (io), 133 PB3 (io), 134 PB4 (io), 135 PB5 (io), 136 PB6 (io), 137 PB7 (io), 138 BOOT0 (in), 139 PB8 (io), 140 PB9 (io), 141 PE0 (io), 142 PE1 (io)
part B pins: 6 VBAT (power), 16 VSS_5 (power), 17 VDD_5 (power), 30 VDD_12 (power), 31 VSSA (power), 32 VREF+ (power), 33 VDDA (power), 38 VSS_4 (power), 39 VDD_4 (power), 51 VSS_6 (power), 52 VDD_6 (power), 61 VSS_7 (power), 62 VDD_7 (power), 71 VCAP_1, 72 VDD_1 (power), 83 VSS_8 (power), 84 VDD_8 (power), 94 VSS_9 (power), 95 VDD_9 (power), 106 VCAP_2, 107 VSS_2 (power), 108 VDD_2 (power), 120 VSS_10 (power), 121 VDD_10 (power), 130 VSS_11 (power), 131 VDD_11 (power), 143 RFU, 144 VDD_3 (power)

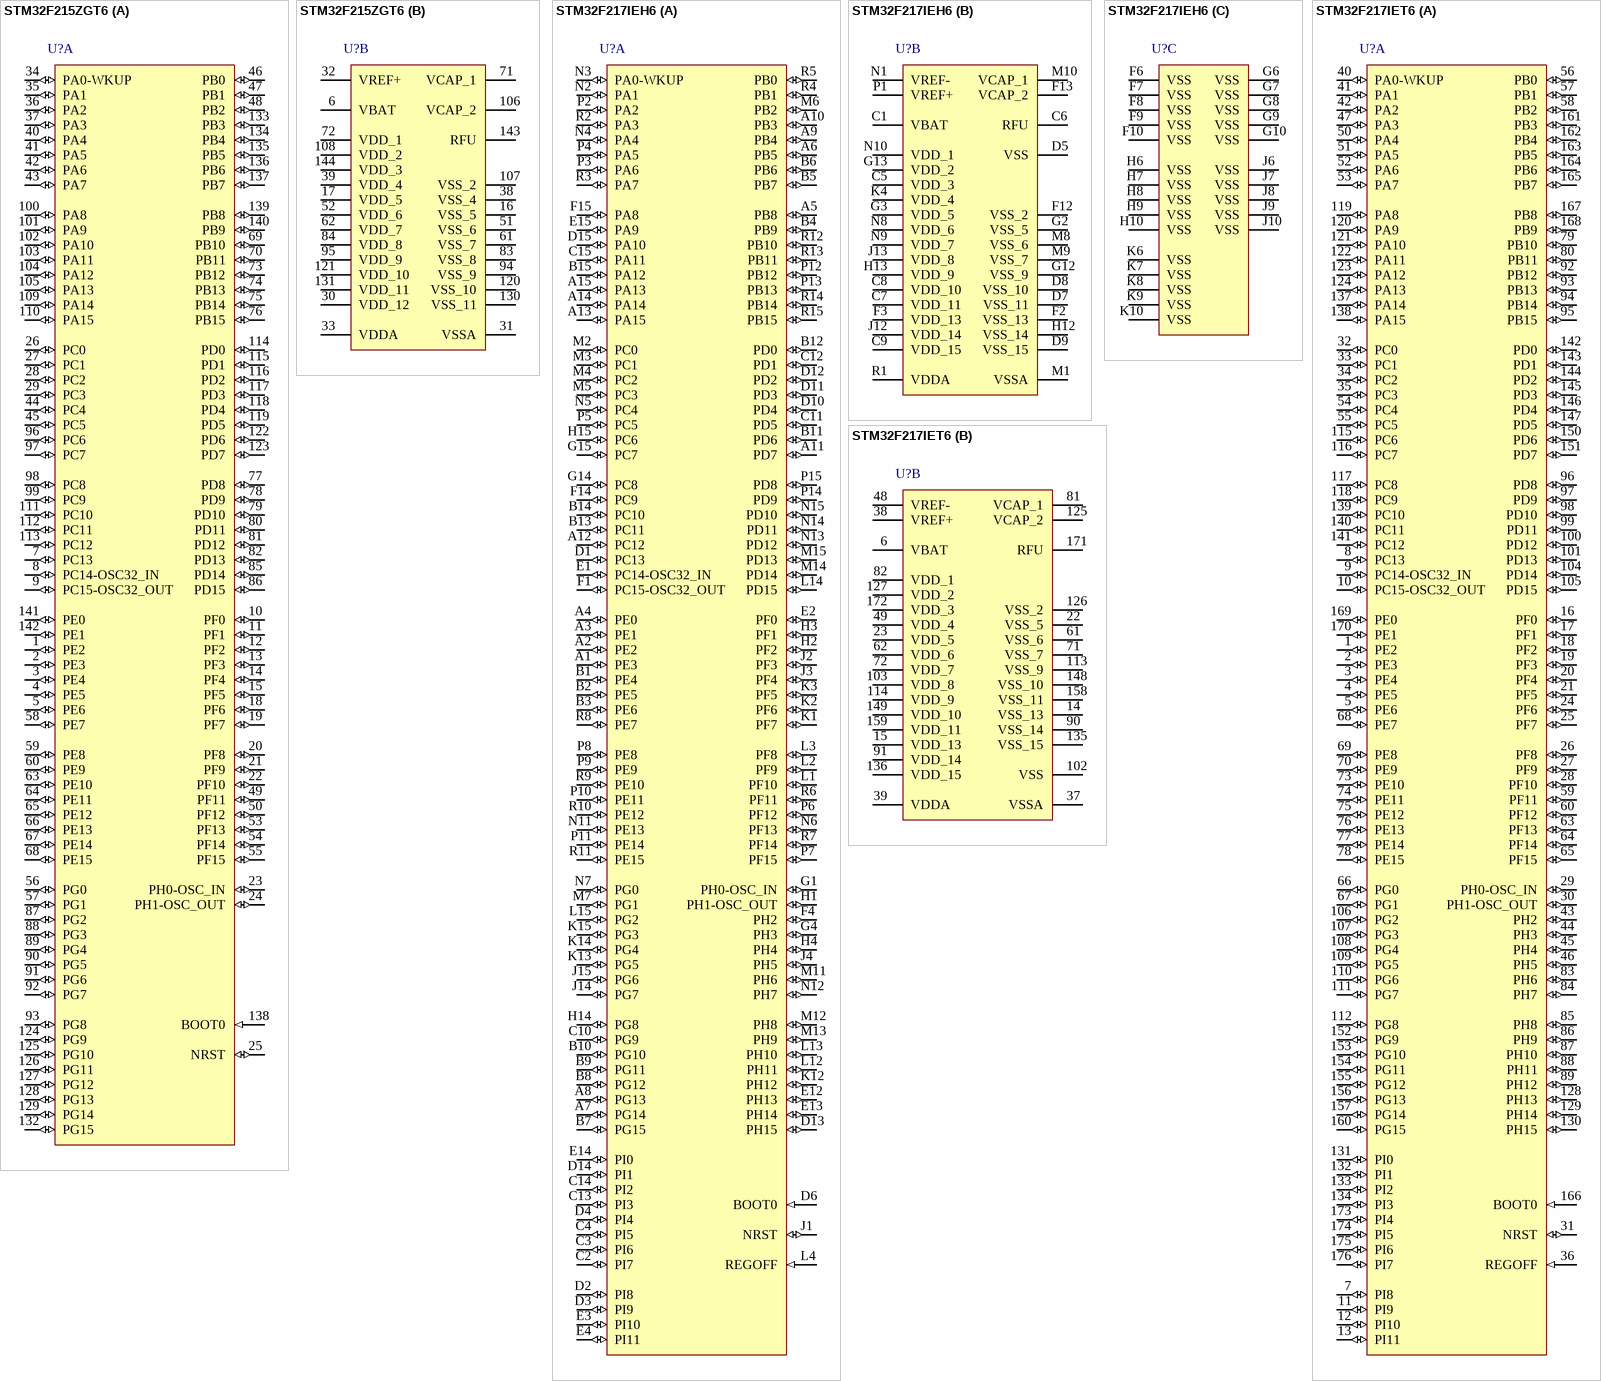
[diagram p12: symbols STM32F215ZGT6 to STM32F217IET6]